# Altium schematic symbol library XG_DW_POCT_2K10LED_3.SCHLIB: 219 symbols (part 1 of 2)
Pins are listed as number, name and electrical type; pins without a type are passive.

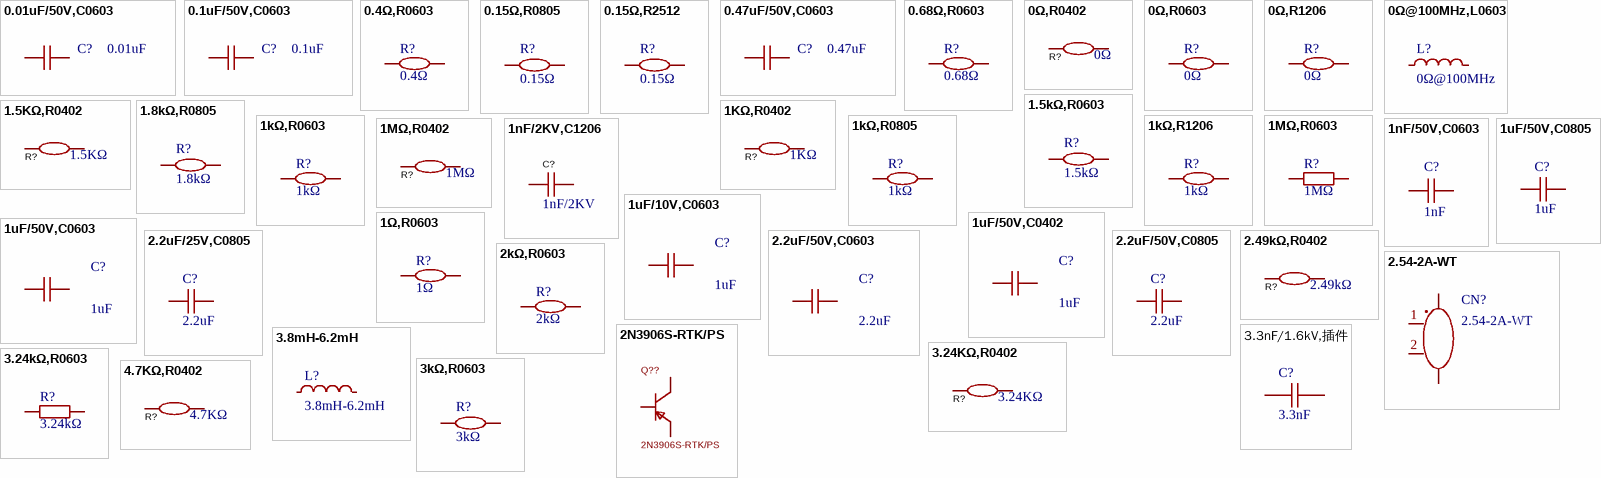
[diagram p0: symbols 0.01uF/50V,C0603 to 4.7KΩ,R0402]

## 0.01uF/50V,C0603
designator C?, comment 0.01uF
贴片电容,X7R; ComponentLink1Description: 供应商链接; ComponentLink1URL: http://www.szlcsc.com/product/details_16531.html
footprint C0603
pins: 1, 2

## 0.1uF/50V,C0603
designator C?, comment 0.1uF
贴片电容,X7R; ComponentLink1Description: 供应商链接; ComponentLink1URL: http://www.szlcsc.com/product/details_16531.html
footprint C0603
pins: 1, 2

## 0.4Ω,R0603
designator R?, comment 0.4Ω
贴片电阻
footprint R0603
3D model R0805_L2.0-W1.3-H0.6
pins: 1, 2

## 0.15Ω,R0805
designator R?, comment 0.15Ω
贴片电阻
footprint R0805
3D model R0805_L2.0-W1.3-H0.6
pins: 1, 2

## 0.15Ω,R2512
designator R?, comment 0.15Ω
贴片电阻
footprint R2512
3D model R0805_L2.0-W1.3-H0.6
pins: 1, 2

## 0.47uF/50V,C0603
designator C?, comment 0.47uF
贴片电容,X7R; ComponentLink1Description: 供应商链接; ComponentLink1URL: http://www.szlcsc.com/product/details_16531.html
footprint C0603
pins: 1, 2

## 0.68Ω,R0603
designator R?, comment 0.68Ω
贴片电阻
footprint R0603
3D model R0805_L2.0-W1.3-H0.6
pins: 1, 2

## 0Ω,R0402
designator R?, comment 0Ω
贴片电阻0Ω
3D model R0402_L1.0-W0.5-H0.5
footprint R0402
pins: 1, 2

## 0Ω,R0603
designator R?, comment 0Ω
贴片电阻
footprint R0603
3D model R0805_L2.0-W1.3-H0.6
pins: 1, 2

## 0Ω,R1206
designator R?, comment 0Ω
贴片电阻
footprint R1206
3D model R0603
pins: 1, 2

## 0Ω@100MHz,L0603
designator L?, comment 0Ω@100MHz
CBG160808U000T;磁珠;阻抗@频率 0Ω@100MHz;直流电阻(DCR) 100mΩ;额定电流 800mA
footprint L0603
3D model L1812_L4.5-W3.2-H3.2
pins: 1, 2

## 1.5KΩ,R0402
designator R?, comment 1.5KΩ
贴片电阻1.5KΩ;1%
3D model R0402_L1.0-W0.5-H0.5
footprint R0402
pins: 1, 2

## 1.5kΩ,R0603
designator R?, comment 1.5kΩ
电阻类型:厚膜电阻;阻值:1.5kΩ;精度:±1%;功率:100mW;最大工作电压:75V;温度系数:±100ppm/℃;
footprint R0603
3D model R0603
pins: 1, 2

## 1.8kΩ,R0805
designator R?, comment 1.8kΩ
电阻类型:厚膜电阻;阻值:1.8kΩ;精度:±1%;功率:125mW;最大工作电压:150V;温度系数:±100ppm/℃;
footprint R0805
3D model R0805_L2.0-W1.3-H0.6
pins: 1, 2

## 1KΩ,R0402
designator R?, comment 1KΩ
贴片电阻1KΩ;1%
3D model R0402_L1.0-W0.5-H0.5
footprint R0402
pins: 1, 2

## 1kΩ,R0603
designator R?, comment 1kΩ
电阻类型:厚膜电阻;阻值:1kΩ;精度:±1%;功率:125mW;最大工作电压:150V;温度系数:±100ppm/℃;
footprint R0603
3D model R0805_L2.0-W1.3-H0.6
pins: 1, 2

## 1kΩ,R0805
designator R?, comment 1kΩ
贴片电阻
footprint R0805
3D model R0805_L2.0-W1.3-H0.6
pins: 1, 2

## 1kΩ,R1206
designator R?, comment 1kΩ
贴片电阻
footprint R1206
3D model R0603
pins: 1, 2

## 1MΩ,R0402
designator R?, comment 1MΩ
电阻类型:厚膜电阻;阻值:1MΩ;精度:±1%;功率:100mW;最大工作电压:75V;温度系数:±100ppm/℃;
3D model R0402_L1.0-W0.5-H0.5
footprint R0402
pins: 1, 2

## 1MΩ,R0603
designator R?, comment 1MΩ
贴片电阻; ComponentLink1Description: 供应商链接; ComponentLink1URL: http://www.szlcsc.com/product/details_23662.html
footprint R0603
pins: 1, 2

## 1nF/2KV,C1206
designator C?, comment 1nF/2KV
贴片电容,X7R
footprint C1206
3D model C1206_L3.2-W1.6-H1.3
pins: 1, 2

## 1nF/50V,C0603
designator C?, comment 1nF
贴片电容,X7R
footprint C0603
3D model C0603_L1.6-W0.8-H0.8
pins: 1, 2

## 1uF/10V,C0603
designator C?, comment 1uF
贴片电容,X7R; ComponentLink1Description: 供应商链接; ComponentLink1URL: http://www.szlcsc.com/product/details_16531.html
footprint C0603
pins: 1, 2

## 1uF/50V,C0402
designator C?, comment 1uF
贴片电容,X7R; ComponentLink1Description: 供应商链接; ComponentLink1URL: http://www.szlcsc.com/product/details_16531.html
footprint C0402
pins: 1, 2

## 1uF/50V,C0603
designator C?, comment 1uF
贴片电容,X7R; ComponentLink1Description: 供应商链接; ComponentLink1URL: http://www.szlcsc.com/product/details_16531.html
footprint C0603
pins: 1, 2

## 1uF/50V,C0805
designator C?, comment 1uF
贴片电容,X7R
footprint C0805
3D model C0805_L2.0-W1.3-H1.3
pins: 1, 2

## 1Ω,R0603
designator R?, comment 1Ω
贴片电阻
footprint R0603
3D model R0805_L2.0-W1.3-H0.6
pins: 1, 2

## 2.2uF/25V,C0805
designator C?, comment 2.2uF
贴片电容,X7R
footprint C0805
3D model C0805_L2.0-W1.3-H1.3
pins: 1, 2

## 2.2uF/50V,C0603
designator C?, comment 2.2uF
贴片电容,X7R; ComponentLink1Description: 供应商链接; ComponentLink1URL: http://www.szlcsc.com/product/details_16531.html
footprint C0603
pins: 1, 2

## 2.2uF/50V,C0805
designator C?, comment 2.2uF
贴片电容,X7R
footprint C0805
3D model C0805_L2.0-W1.3-H1.3
pins: 1, 2

## 2.49kΩ,R0402
designator R?, comment 2.49kΩ
电阻类型:厚膜电阻;阻值:2.49kΩ
3D model R0402_L1.0-W0.5-H0.5
footprint R0402
pins: 1, 2

## 2.54-2A-WT
designator CN?
线对板针座;SMD,P=2.54mm,卧贴;XH2.44 1x2Pin; Manufacturer: CAX(创都); Add into BOM: yes; Pins Structure: 1x2P; Pitch: 2.54mm; Reference Series: XH; Number of PINs Per Row: 2; Current Rating (Max): 500mA; Symbol: 2.54-2A-WT; Device: 2.54-2A-WT; LCSC Part Name: 1x2P 间距:2.54mm 卧贴 系列:XH; Supplier Part: C722696; Manufacturer Part: 2.54-2A-WT; Supplier Footprint: SMD,P=2.54mm,卧贴; JLCPCB Part Class: 扩展库; Datasheet: https://atta.szlcsc.com/upload/public/pdf/source/20200831/C722696_77A3476FAF7CFEE79ECA533977340414.pdf; Supplier: LCSC; Convert to PCB: yes; Mounting Style: 卧贴; Number of Pins: 2P; Number of Rows: 1; Row Spacing: -; Operating Temperature Range: -25℃~+85℃
footprint CONN-SMD_2.54-2A-WT
3D model CONN-SMD_2.54-2A-WT
pins: 1, 2, 3, 4

## 2kΩ,R0603
designator R?, comment 2kΩ
贴片电阻
footprint R0603
3D model R0805_L2.0-W1.3-H0.6
pins: 1, 2

## 2N3906S-RTK/PS
designator Q??
Manufacturer: KEC; Symbol: 2N3906S-RTK/PS_C5300004; Add into BOM: yes; Current - Collector(Ic): 200mA; Collector - Emitter Voltage VCEO: 40V; Pd - Power Dissipation: 350mW; DC Current Gain: 300@10mA,1V; Transition frequency(fT): 250MHz; Current - Collector Cutoff: 50nA; Vce Saturation(VCE(sat)): 400mV@50mA,5mA; Emitter-Base Voltage(Vebo): 5V; Device: 2N3906S-RTK/PS; LCSC Part Name: 2N3906S-RTK/PS; Supplier Part: C5300004; Manufacturer Part: 2N3906S-RTK/PS; Supplier Footprint: SOT-23; JLCPCB Part Class: Extended Part; Datasheet: https://item.szlcsc.com/datasheet/2N3906S-RTK%252FPS/6051230.html; Supplier: LCSC; Convert to PCB: yes
footprint SOT-23-3_L2.9-W1.3-P1.90-LS2.4-TR
3D model SOT-23-3P_L2.9-W1.3-H1.0-LS2.4-P0.95
pins: 1 E, 2 B, 3 C

## 3.3nF/1.6kV,插件
designator C?, comment 3.3nF
PS332J3C1001; 聚丙烯膜电容(CBB);容值 3.3nF;精度 ±5%;额定电压 1.6kV
footprint CAP-TH_L11.5-W6.0-P10.00-D0.6
3D model CAP-TH-2P-L11.5-W6.0-H12.0-P10.0
pins: 1, 2

## 3.8mH-6.2mH
designator L?
工字电感
footprint 插件,D12xL20mm
pins: 1, 2

## 3.24KΩ,R0402
designator R?, comment 3.24KΩ
贴片电阻3.24KΩ;1%
3D model R0402_L1.0-W0.5-H0.5
footprint R0402
pins: 1, 2

## 3.24kΩ,R0603
designator R?, comment 3.24kΩ
贴片电阻3.24KΩ;1%; ComponentLink1Description: 供应商链接; ComponentLink1URL: http://www.szlcsc.com/product/details_21904.html
footprint R0603
pins: 1, 2

## 3kΩ,R0603
designator R?, comment 3kΩ
电阻类型:厚膜电阻;阻值:3kΩ;精度:±1%;功率:100mW;最大工作电压:75V;温度系数:±100ppm/℃;
footprint R0603
3D model R0603
pins: 1, 2

## 4.7KΩ,R0402
designator R?, comment 4.7KΩ
贴片电阻4.7KΩ;1%
3D model R0402_L1.0-W0.5-H0.5
footprint R0402
pins: 1, 2

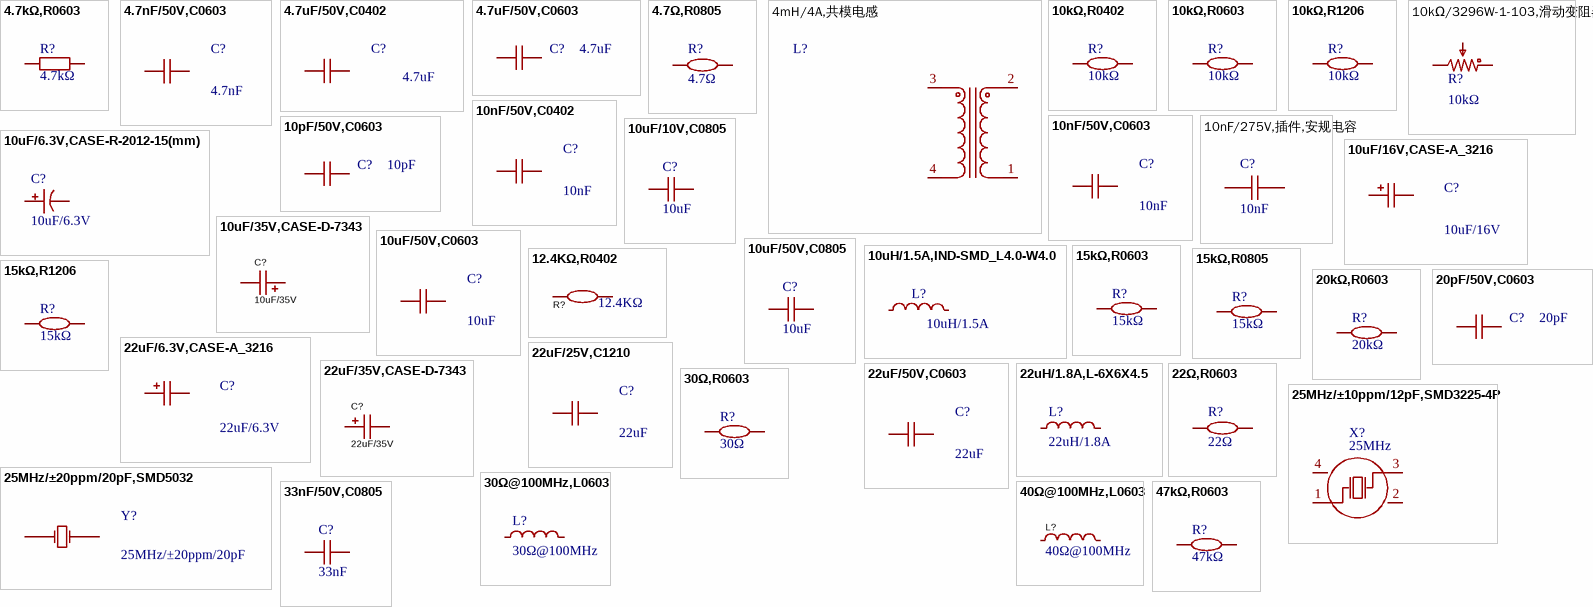
[diagram p1: symbols 4.7kΩ,R0603 to 47kΩ,R0603]

## 4.7kΩ,R0603
designator R?, comment 4.7kΩ
贴片电阻; ComponentLink1Description: 供应商链接; ComponentLink1URL: http://www.szlcsc.com/product/details_21904.html
footprint R0603
pins: 1, 2

## 4.7nF/50V,C0603
designator C?, comment 4.7nF
贴片电容,X7R; ComponentLink1Description: 供应商链接; ComponentLink1URL: http://www.szlcsc.com/product/details_16531.html
footprint C0603
pins: 1, 2

## 4.7uF/50V,C0402
designator C?, comment 4.7uF
贴片电容,X7R; ComponentLink1Description: 供应商链接; ComponentLink1URL: http://www.szlcsc.com/product/details_16531.html
footprint C0402
pins: 1, 2

## 4.7uF/50V,C0603
designator C?, comment 4.7uF
贴片电容,X7R; ComponentLink1Description: 供应商链接; ComponentLink1URL: http://www.szlcsc.com/product/details_16531.html
footprint C0603
pins: 1, 2

## 4.7Ω,R0805
designator R?, comment 4.7Ω
贴片电阻
footprint R0805
3D model R0805_L2.0-W1.3-H0.6
pins: 1, 2

## 4mH/4A,共模电感
designator L?, comment 4mH/4A  (value not drawn)
XRT16128B-402VFRL8；共模滤波器
footprint L21x12.5mm-4P
pins: 1, 2, 3, 4

## 10kΩ,R0402
designator R?, comment 10kΩ
电阻类型:厚膜电阻;阻值:10kΩ;精度:±1%;功率:100mW;最大工作电压:75V;温度系数:±100ppm/℃;
footprint R0402
3D model R0603
pins: 1, 2

## 10kΩ,R0603
designator R?, comment 10kΩ
电阻类型:厚膜电阻;阻值:10kΩ;精度:±1%;功率:100mW;最大工作电压:75V;温度系数:±100ppm/℃;
footprint R0603
3D model R0603
pins: 1, 2

## 10kΩ,R1206
designator R?, comment 10kΩ
贴片电阻
footprint R1206
3D model R0603
pins: 1, 2

## 10kΩ/3296W-1-103,滑动变阻器
designator R?, comment 10kΩ
滑动变阻器
footprint RES-ADJ-TH_3P-L10.0-W10.0-P2.50-L
3D model 3296W
pins: 1, 2, 3

## 10nF/50V,C0402
designator C?, comment 10nF
贴片电容,X7R; ComponentLink1Description: 供应商链接; ComponentLink1URL: http://www.szlcsc.com/product/details_16531.html
footprint C0402
pins: 1, 2

## 10nF/50V,C0603
designator C?, comment 10nF
贴片电容,X7R; ComponentLink1Description: 供应商链接; ComponentLink1URL: http://www.szlcsc.com/product/details_16531.html
footprint C0603
pins: 1, 2

## 10nF/275V,插件,安规电容
designator C?, comment 10nF
MPX103K31C2KN15600;安规电容;容值 10nF;精度 ±10%;工作电压(AC) 275V；310V；305V;防护等级 X2;安规认证 UL；CUL；KC；ENEC；VDE；CQC
footprint CAP-TH_L12.0-W5.0-P10.00-D0.6-1
3D model CAP-TH_L12.0-W5.0-P10.00-D0.6-1
pins: 1, 2

## 10pF/50V,C0603
designator C?, comment 10pF
贴片电容,X7R; ComponentLink1Description: 供应商链接; ComponentLink1URL: http://www.szlcsc.com/product/details_16531.html
footprint C0603
pins: 1, 2

## 10uF/6.3V,CASE-R-2012-15(mm)
designator C?, comment 10uF/6.3V
TAJR106K006RNJ; 钽电容;容值:10uF;精度:±10%;额定电压:6.3V;等效串联电阻:6Ω@100kHz;
footprint CAP-SMD_L2.0-W1.2
3D model CAP-SMD_L2.0-W1.2
pins: 1, 2

## 10uF/10V,C0805
designator C?, comment 10uF
容值:10uF;X7R
footprint C0805
3D model C0805_L2.0-W1.3-H1.3
pins: 1, 2

## 10uF/16V,CASE-A_3216 
designator C?, comment 10uF/16V
钽电容;±10%;16V; ComponentLink1Description: 供应商链接; ComponentLink1URL: http://www.szlcsc.com/product/details_7643.html
footprint CASE-A_3216
pins: 1, 2

## 10uF/35V,CASE-D-7343
designator C?, comment 10uF/35V
TAJD106K035RNJ;钽电容;容值 10uF;精度 ±10%; 额定电压 35V;等效串联电阻(ESR) 1Ω@100kHz
footprint CASE-D_7343
3D model CASE-D_L7.3-W4.3-H2.9
pins: 1, 2

## 10uF/50V,C0603
designator C?, comment 10uF
贴片电容,X7R; ComponentLink1Description: 供应商链接; ComponentLink1URL: http://www.szlcsc.com/product/details_16531.html
footprint C0603
pins: 1, 2

## 10uF/50V,C0805
designator C?, comment 10uF
容值:10uF;精度:±10%;额定电压:50V;材质(温度系数):X5R;
footprint C0805
3D model C0805_L2.0-W1.3-H1.3
pins: 1, 2

## 10uH/1.5A,IND-SMD_L4.0-W4.0
designator L?, comment 10uH/1.5A
SWPA4030S100MT;功率电感;电感值:10uH;精度:±20%;额定电流:1.5A;饱和电流(Isat):2.4A;类型:-;
footprint IND-SMD_L4.0-W4.0
3D model IND-SMD_L4.0-W4.0-H1.9
pins: 1, 2

## 12.4KΩ,R0402
designator R?, comment 12.4KΩ
贴片电阻12.4KΩ;1%
3D model R0402_L1.0-W0.5-H0.5
footprint R0402
pins: 1, 2

## 15kΩ,R0603
designator R?, comment 15kΩ
贴片电阻
footprint R0603
3D model R0805_L2.0-W1.3-H0.6
pins: 1, 2

## 15kΩ,R0805
designator R?, comment 15kΩ
贴片电阻
footprint R0805
3D model R0805_L2.0-W1.3-H0.6
pins: 1, 2

## 15kΩ,R1206
designator R?, comment 15kΩ
贴片电阻
footprint R1206
3D model R0603
pins: 1, 2

## 20kΩ,R0603
designator R?, comment 20kΩ
厚膜电阻;阻值:20kΩ;精度:±1%
footprint R0603
3D model R0603
pins: 1, 2

## 20pF/50V,C0603
designator C?, comment 20pF
贴片电容,X7R; ComponentLink1Description: 供应商链接; ComponentLink1URL: http://www.szlcsc.com/product/details_16531.html
footprint C0603
pins: 1, 2

## 22uF/6.3V,CASE-A_3216
designator C?, comment 22uF/6.3V
钽电容;±10%;6.3V; ComponentLink1Description: 供应商链接; ComponentLink1URL: http://www.szlcsc.com/product/details_7643.html
footprint CASE-A_3216
pins: 1, 2

## 22uF/25V,C1210
designator C?, comment 22uF
贴片电容,X7R; ComponentLink1Description: 供应商链接; ComponentLink1URL: http://www.szlcsc.com/product/details_2206.html
footprint C1210
pins: 1, 2

## 22uF/35V,CASE-D-7343
designator C?, comment 22uF/35V
TAJD226K035RNJ;钽电容;容值 22uF; 精度 ±10%额定电压 35V;等效串联电阻(ESR) 900mΩ@100kHz
footprint CAP-SMD_L7.3-W4.3-RD
3D model CAP-SMD_L7.3-W4.3-RD
pins: 1, 2

## 22uF/50V,C0603
designator C?, comment 22uF
贴片电容,X7R; ComponentLink1Description: 供应商链接; ComponentLink1URL: http://www.szlcsc.com/product/details_16531.html
footprint C0603
pins: 1, 2

## 22uH/1.8A,L-6X6X4.5
designator L?, comment 22uH/1.8A
SWPA6045S220MT;功率电感;SMD,6x6mm;电感值 22uH;精度 ±20%;额定电流 1.8A;饱和电流(Isat) 2.2A;直流电阻(DCR) 89mΩ
footprint L-6X6X4.5
3D model L1812_L4.5-W3.2-H3.2
pins: 1, 2

## 22Ω,R0603
designator R?, comment 22Ω
电阻类型:厚膜电阻;阻值:22Ω;精度:±1%;功率:100mW;最大工作电压:75V;温度系数:±100ppm/℃;
footprint R0603
3D model R0603
pins: 1, 2

## 25MHz/±10ppm/12pF,SMD3225-4P
designator X?, comment 25MHz
TAXM25M4RFBCCT2T;无源晶振;贴片晶振;频率 25MHz;常温频差 ±10ppm;负载电容 12pF;频率稳定度 ±50ppm;等效串联电阻(ESR) 80Ω;工作温度 -40℃~+85℃
footprint OSC-SMD_4P-L3.2-W2.5-BL
pins: 1 OSC1, 2 GND, 3 OSC2, 4 GND

## 25MHz/±20ppm/20pF,SMD5032
designator Y?, comment 25MHz/±20ppm/20pF
X503225MSB2GI;无源晶振; ComponentLink1Description: 供应商链接; ComponentLink1URL: http://www.szlcsc.com/product/details_117214.html
footprint SMD-5032_2P
pins: 1 OSC1, 2 OSC2

## 30Ω,R0603
designator R?, comment 30Ω
贴片电阻
footprint R0603
3D model R0805_L2.0-W1.3-H0.6
pins: 1, 2

## 30Ω@100MHz,L0603
designator L?, comment 30Ω@100MHz
SBK160808T-300Y-N;磁珠; 阻抗@频率  30Ω@100MHz;误差 ±25%;直流电阻(DCR) 100mΩ;额定电流 400mA
footprint L0603
3D model L1812_L4.5-W3.2-H3.2
pins: 1, 2

## 33nF/50V,C0805
designator C?, comment 33nF
贴片电容，X7R
footprint C0805
3D model C0805_L2.0-W1.3-H1.3
pins: 1, 2

## 40Ω@100MHz,L0603
designator L?, comment 40Ω@100MHz
ILBB0603ER400V;磁珠;阻抗@频率 40Ω@100MHz;误差 ±25%;直流电阻(DCR) 800mΩ; 额定电流 150mA
footprint L0603
3D model L0603_L1.6-W0.8-H0.5_BEAD
pins: 1, 2

## 47kΩ,R0603
designator R?, comment 47kΩ
贴片电阻
footprint R0603
3D model R0603
pins: 1, 2

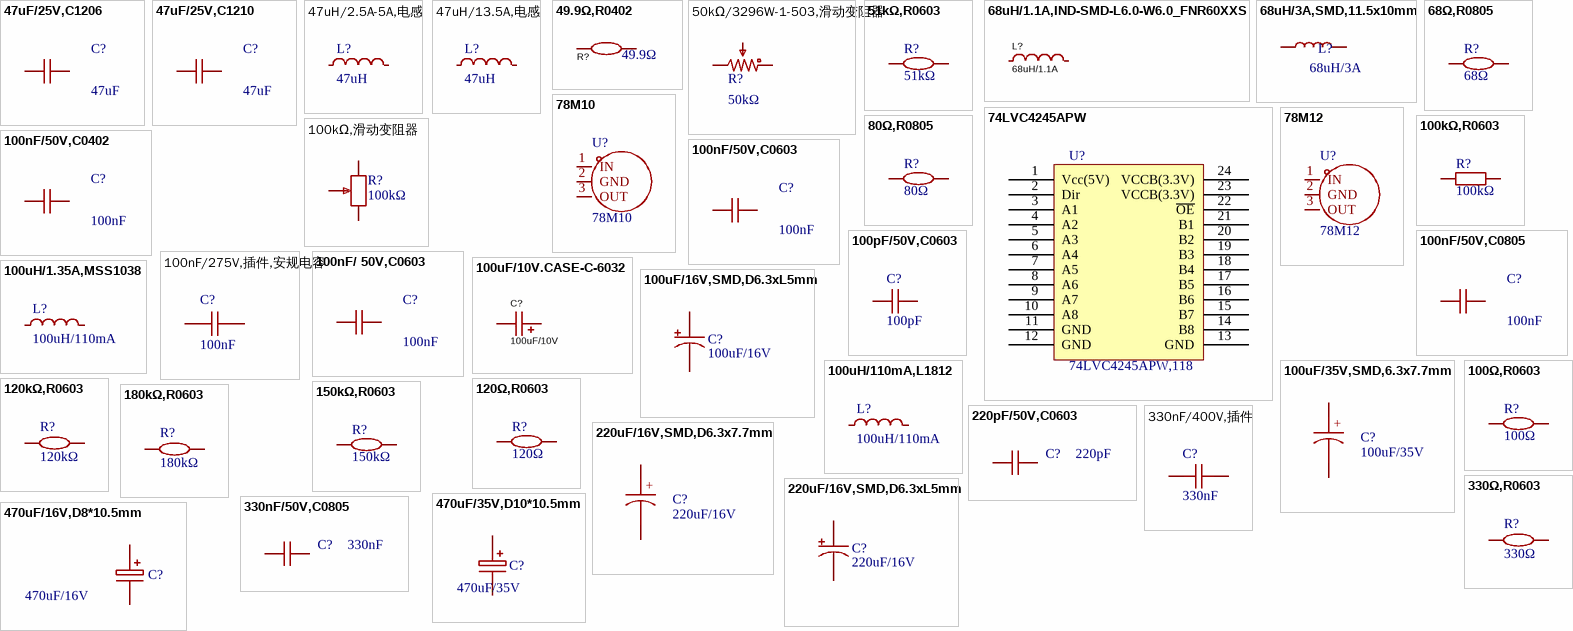
[diagram p2: symbols 47uF/25V,C1206 to 470uF/35V,D10*10.5mm]

## 47uF/25V,C1206
designator C?, comment 47uF
贴片电容,X7R; ComponentLink1Description: 供应商链接; ComponentLink1URL: http://www.szlcsc.com/product/details_30577.html
footprint C1206
pins: 1, 2

## 47uF/25V,C1210
designator C?, comment 47uF
贴片电容,X7R; ComponentLink1Description: 供应商链接; ComponentLink1URL: http://www.szlcsc.com/product/details_2206.html
footprint C1210
pins: 1, 2

## 47uH/2.5A-5A,电感
designator L?, comment 47uH
XR3726T470MVL5;色环/插件电感;电感值 47uH；精度 ±10%；额定电流 2.5A；饱和电流(Isat) 5A;线径 0.5mm
footprint L11.5x7x5.0mm-2P
3D model IND-TH_L23.0-W12.0-P9.00-D1.4
pins: 1, 2

## 47uH/13.5A,电感
designator L?, comment 47uH
PDMTAT068125-470MLU;色环/插件电感;电感值 47uH;精度 ±20%;额定电流 13.5A;直流电阻(DCR) 12mΩ;环形电感
footprint IND-TH_L23.0-W12.0-P9.00-D1.4
3D model IND-TH_L23.0-W12.0-P9.00-D1.4
pins: 1, 2

## 49.9Ω,R0402
designator R?, comment 49.9Ω
贴片电阻49.9R;1%
3D model R0402_L1.0-W0.5-H0.5
footprint R0402
pins: 1, 2

## 50kΩ/3296W-1-503,滑动变阻器
designator R?, comment 50kΩ
滑动变阻器
footprint RES-ADJ-TH_3P-L9.5-W4.85-P2.50-BL-BS
3D model 3296W
pins: 1, 2, 3

## 51kΩ,R0603
designator R?, comment 51kΩ
电阻类型:厚膜电阻;阻值:51kΩ;精度:±1%;功率:100mW;最大工作电压:75V;温度系数:±100ppm/℃;
footprint R0603
3D model R0603
pins: 1, 2

## 68uH/1.1A,IND-SMD-L6.0-W6.0_FNR60XXS
designator L?, comment 68uH/1.1A
FNR6045S680MT;功率电感;电感值 68uH;精度 ±20%;额定电流 1.1A;饱和电流(Isat) 1.3A;直流电阻(DCR) 376mΩ
footprint IND-SMD_L6.0-W6.0_FNR60XXS
3D model IND-SMD_L6.0-W6.0-H2.8
pins: 1, 2

## 68uH/3A,SMD,11.5x10mm
designator L?, comment 68uH/3A
YSPI1050-680M;功率电感;电感值 68uH;精度 ±20%;额定电流 3A;直流电阻(DCR) 240mΩ
footprint SMD INDUCTOR 68uH 3A (SMD 68uH 3A功率电感)
pins: 1, 2

## 68Ω,R0805
designator R?, comment 68Ω
贴片电阻
footprint R0805
3D model R0805_L2.0-W1.3-H0.6
pins: 1, 2

## 74LVC4245APW
designator U?, comment 74LVC4245APW,118
转换器/电平移位器；通道类型 双向；工作电压(VCCA) 1.5V~5.5V；工作电压(VCCB)1.5V~3.6V； 通道数 1；每个电路通道数 8；输出类型 三态
footprint TSSOP-24
pins: 1 Vcc(5V), 2 Dir, 3 A1, 4 A2, 5 A3, 6 A4, 7 A5, 8 A6, 9 A7, 10 A8, 11 GND, 12 GND, 13 GND, 14 B8, 15 B7, 16 B6, 17 B5, 18 B4, 19 B3, 20 B2, 21 B1, 22 ~{OE}, 23 VCCB(3.3V), 24 VCCB(3.3V)

## 78M10
designator U?
线性稳压器(LDO)；输出类型 固定；工作电压 35V；输出电压 10V；输出电流 500mA； 静态电流(Iq) 6mA；特性 短路保护；过热保护
footprint TO-252-3_L6.5-W5.9-P4.60-LS10.0-BL
3D model TO-252-3_L6.5-W5.9-P4.60-LS10.0-BL
pins: 1 IN, 2 GND, 3 OUT

## 78M12
designator U?
线性稳压器(LDO)；输出类型 固定；工作电压 35V；输出电压 12V；输出电流 500mA； 静态电流(Iq) 6mA；特性 短路保护；过热保护
footprint TO-252-3_L6.5-W5.9-P4.60-LS10.0-BL
3D model TO-252-3_L6.5-W5.9-P4.60-LS10.0-BL
pins: 1 IN, 2 GND, 3 OUT

## 80Ω,R0805
designator R?, comment 80Ω
贴片电阻
footprint R0805
3D model R0805_L2.0-W1.3-H0.6
pins: 1, 2

## 100kΩ,R0603
designator R?, comment 100kΩ
贴片电阻; ComponentLink1Description: 供应商链接; ComponentLink1URL: http://www.szlcsc.com/product/details_21903.html
footprint R0603
pins: 1, 2

## 100kΩ,滑动变阻器
designator R?, comment 100kΩ
滑动变阻器;阻值:100kΩ;精度:±10%;功率:250mW;温度系数:±100ppm/℃;
footprint RES-ADJ-SMD_3224W
3D model RES-ADJ-SMD_3224W
pins: 1, 2, 3

## 100nF/50V,C0402
designator C?, comment 100nF
贴片电容,X7R; ComponentLink1Description: 供应商链接; ComponentLink1URL: http://www.szlcsc.com/product/details_16531.html
footprint C0402
pins: 1, 2

## 100nF/50V,C0603
designator C?, comment 100nF
贴片电容,X7R; ComponentLink1Description: 供应商链接; ComponentLink1URL: http://www.szlcsc.com/product/details_16531.html
footprint C0603
pins: 1, 2

## 100nF/50V,C0805
designator C?, comment 100nF
贴片电容,X7R; ComponentLink1Description: 供应商链接; ComponentLink1URL: http://www.szlcsc.com/product/details_16531.html
footprint C0805
pins: 1, 2

## 100nF/275V,插件,安规电容
designator C?, comment 100nF
MPX104K31C3KN15600；安规电容；容值 100nF；精度 ±10%；工作电压(AC) 275V；310V；305V；防护等级 X2；安规认证 UL；CUL；KC；ENEC；VDE；CQC
footprint CAP-TH_L13.0-W6.0-P10.00-D0.6
3D model CAP-TH_L13.0-W6.0-H12.0-P10.0
pins: 1, 2

## 100nF/ 50V,C0603
designator C?, comment 100nF
贴片电容,COG; ComponentLink1Description: 供应商链接; ComponentLink1URL: http://www.szlcsc.com/product/details_16531.html
footprint C0603
pins: 1, 2

## 100pF/50V,C0603
designator C?, comment 100pF
容值:100pF;精度:±5%;额定电压:50V;材质(温度系数):C0G;
footprint C0603
3D model C0603_L1.6-W0.8-H0.8
pins: 1, 2

## 100uF/10V.CASE-C-6032
designator C?, comment 100uF/10V
TAJC107K010RNJ; 钽电容;容值 100uF;精度 ±10%;额定电压 10V;等效串联电阻(ESR) 1.2Ω@100kHz
footprint CAP-SMD_L6.0-W3.2-R-RD
pins: 1, 2

## 100uF/16V,SMD,D6.3xL5mm
designator C?, comment 100uF/16V
贴片型铝电解电容;容值 100uF;精度 ±20%;额定电压 16V;纹波电流 48mA@120Hz;电容体直径 6.3mm;电容体长度 5mm;工作寿命 2000hrs@105℃;工作温度 -40℃~+105℃
footprint CAP-SMD_BD6.3-L6.6-W6.6-FD
3D model CAP-SMD_BD6.3-L6.6-W6.6-FD
pins: 1, 2

## 100uF/35V,SMD,6.3x7.7mm
designator C?, comment 100uF/35V
贴片型铝电解电容
footprint SMD-ECAP-6.3×7.7
pins: 1, 2
text: +

## 100uH/1.35A,MSS1038
designator L?, comment 100uH/110mA
SLD10D40S-101MTT;功率电感;电感值 100uH;精度 ±20%;额定电流 1.35A;直流电阻(DCR) 304mΩ
footprint MSS1038
3D model L1812_L4.5-W3.2-H3.2
pins: 1, 2

## 100uH/110mA,L1812
designator L?, comment 100uH/110mA
CM4532101KSB;电感值:100uH;精度:±10%;额定电流:110mA;
footprint L1812
3D model L1812_L4.5-W3.2-H3.2
pins: 1, 2

## 100Ω,R0603
designator R?, comment 100Ω
贴片电阻
footprint R0603
3D model R0805_L2.0-W1.3-H0.6
pins: 1, 2

## 120kΩ,R0603
designator R?, comment 120kΩ
电阻类型:厚膜电阻;阻值:120kΩ;精度:±1%;功率:100mW;最大工作电压:75V;温度系数:±100ppm/℃;
footprint R0603
3D model R0603
pins: 1, 2

## 120Ω,R0603
designator R?, comment 120Ω
贴片电阻
footprint R0603
3D model R0603
pins: 1, 2

## 150kΩ,R0603
designator R?, comment 150kΩ
电阻类型:厚膜电阻;阻值:150kΩ;精度:±1%;功率:100mW;最大工作电压:75V;温度系数:±100ppm/℃;
footprint R0603
3D model R0603
pins: 1, 2

## 180kΩ,R0603
designator R?, comment 180kΩ
电阻类型:厚膜电阻;阻值:180kΩ;精度:±1%;功率:100mW;最大工作电压:75V;温度系数:±100ppm/℃;
footprint R0603
3D model R0603
pins: 1, 2

## 220pF/50V,C0603
designator C?, comment 220pF
容值:220pF;精度:±5%;额定电压:50V;材质(温度系数):C0G;; ComponentLink1Description: 供应商链接; ComponentLink1URL: http://www.szlcsc.com/product/details_16531.html
footprint C0603
pins: 1, 2

## 220uF/16V,SMD,D6.3x7.7mm
designator C?, comment 220uF/16V
贴片型铝电解电容
footprint SMD-ECAP-6.3×7.7
pins: 1, 2
text: +

## 220uF/16V,SMD,D6.3xL5mm
designator C?, comment 220uF/16V
贴片型铝电解电容;容值 220uF;精度 ±20%;额定电压 16V
footprint CAP-SMD_BD6.3-L6.6-W6.6-FD
3D model CAP-SMD_BD6.3-L6.6-W6.6-FD
pins: 1, 2

## 330nF/50V,C0805
designator C?, comment 330nF
贴片电容,X7R; ComponentLink1Description: 供应商链接; ComponentLink1URL: http://www.szlcsc.com/product/details_16531.html
footprint C0805
pins: 1, 2

## 330nF/400V,插件
designator C?, comment 330nF
KP334J2G1002T; 聚丙烯膜电容(CBB);容值 330nF;精度 ±5%;额定电压 400V
footprint CAP-TH_L11.5-W6.0-P10.00-D0.6
3D model CAP-TH-2P-L11.5-W6.0-H12.0-P10.0
pins: 1, 2

## 330Ω,R0603
designator R?, comment 330Ω
贴片电阻
footprint R0603
3D model R0603
pins: 1, 2

## 470uF/16V,D8*10.5mm
designator C?, comment 470uF/16V
贴片型铝电解电容
footprint ELE-S-10.5/D8.0
pins: 1, 2
2 alternate drawings of the same symbol

## 470uF/35V,D10*10.5mm
designator C?, comment 470uF/35V
贴片型铝电解电容
footprint ELE-S-10.5/D10
pins: 1, 2
2 alternate drawings of the same symbol

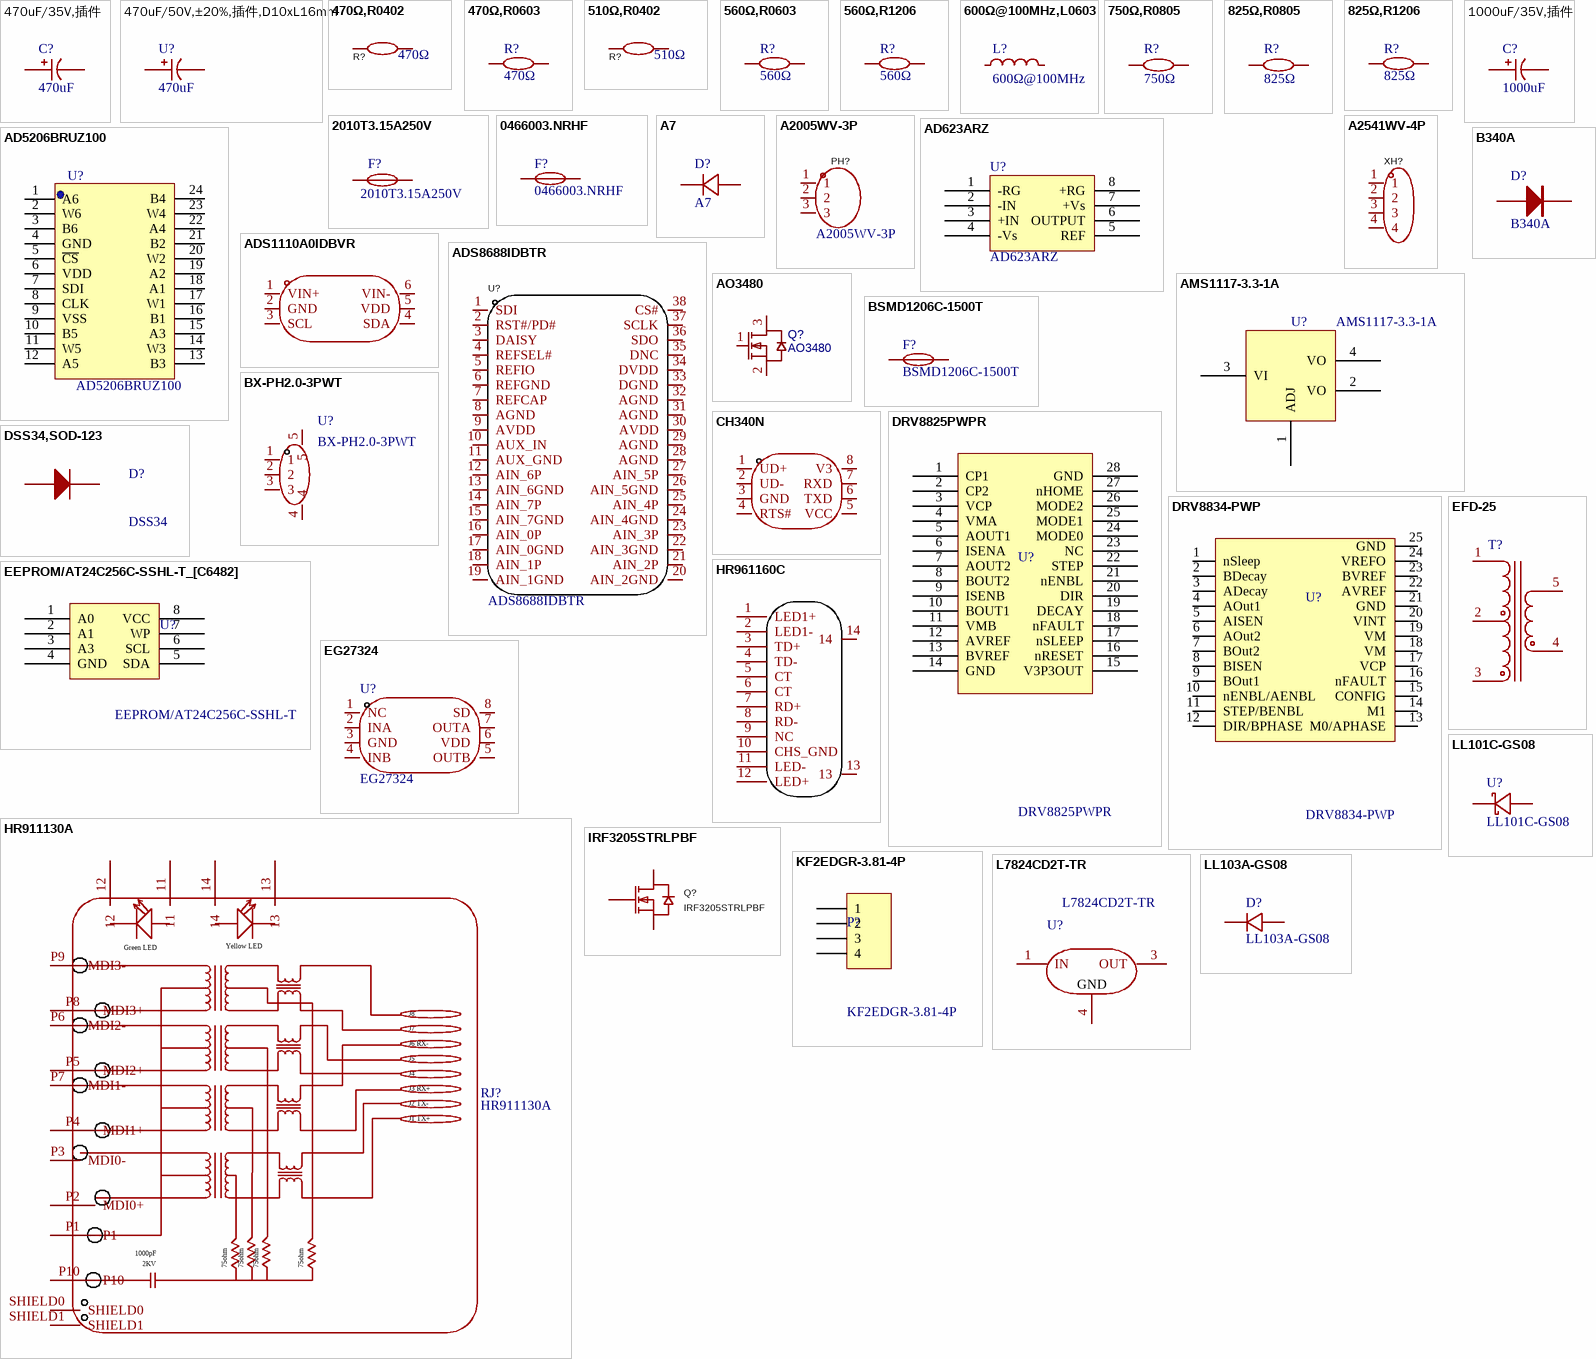
[diagram p3: symbols 470uF/35V,插件 to LL103A-GS08]

## 470uF/35V,插件
designator C?, comment 470uF
footprint CAP-TH_BD10.0-P5.00-D0.6-FD
3D model CAP-SMD_BD10.0-L10.3-W10.3-H10.2
pins: 1, 2

## 470uF/50V,±20%,插件,D10xL16mm
designator U?, comment 470uF
直插铝电解电容
footprint CAP-TH_BD10.0-P5.00-D0.6-FD
3D model CAP-TH_BD10.0-P5.00-D0.6-FD
pins: 1, 2

## 470Ω,R0402
designator R?, comment 470Ω
贴片电阻470Ω;1%
3D model R0402_L1.0-W0.5-H0.5
footprint R0402
pins: 1, 2

## 470Ω,R0603
designator R?, comment 470Ω
贴片电阻
footprint R0603
3D model R0805_L2.0-W1.3-H0.6
pins: 1, 2

## 510Ω,R0402
designator R?, comment 510Ω
贴片电阻
3D model R0402_L1.0-W0.5-H0.5
footprint R0402
pins: 1, 2

## 560Ω,R0603
designator R?, comment 560Ω
贴片电阻
footprint R0603
3D model R0805_L2.0-W1.3-H0.6
pins: 1, 2

## 560Ω,R1206
designator R?, comment 560Ω
贴片电阻
footprint R1206
3D model R0805_L2.0-W1.3-H0.6
pins: 1, 2

## 600Ω@100MHz,L0603
designator L?, comment 600Ω@100MHz
BLM18AG601SN1D;磁珠;阻抗@频率 600Ω@100MHz;误差 ±25%;直流电阻(DCR) 380mΩ;额定电流 500mA
footprint L0603
3D model L1812_L4.5-W3.2-H3.2
pins: 1, 2

## 750Ω,R0805
designator R?, comment 750Ω
电阻类型:厚膜电阻;阻值:750Ω;精度:±1%;功率:125mW;最大工作电压:150V;温度系数:±100ppm/℃;
footprint R0805
3D model R0805_L2.0-W1.3-H0.6
pins: 1, 2

## 825Ω,R0805
designator R?, comment 825Ω
贴片电阻
footprint R0805
3D model R0805_L2.0-W1.3-H0.6
pins: 1, 2

## 825Ω,R1206
designator R?, comment 825Ω
贴片电阻
footprint R1206
3D model R0603
pins: 1, 2

## 1000uF/35V,插件
designator C?, comment 1000uF
ERR1VM102G20OT；容值: 1000uF；精度: ±20%；额定电压: 35V；脚间距: 5mm
footprint CAP-TH_BD10.0-P5.00-D0.6-FD
3D model CAP-SMD_BD10.0-L10.3-W10.3-H10.2
pins: 1, 2

## 2010T3.15A250V
designator F?
一次性方形保险丝； 额定电流 3.15A
footprint FUSE-TH_L8.5-W4.0-P5.08-D0.6
3D model FUSE-TH_L8.5-W4.0-H8.5-P5.08
pins: 1, 2

## 0466003.NRHF
designator F?
一次性贴片式保险丝；额定电流 3A；额定电压 (AC) 32V
footprint F1206
3D model F1206_L3.2-W1.7-H0.6
pins: 1, 2

## A7
designator D?
C3035834；通用二极管；正向压降(Vf) 1.1V@1A；直流反向耐压(Vr) 1kV；整流电流 1A；反向电流(Ir) 5uA
footprint SOD-123FL_L2.7-W1.8-LS3.7-RD
3D model SOD-123FL_L2.8-W1.8-H1.1-LS3.6
pins: 1 K, 2 A

## A2005WV-3P
designator PH?
footprint HDR-TH_3P-P2.00-V-M
3D model HDR-TH_3P-P2.00-M-LI-1X3P
pins: 1, 2, 3

## A2541WV-4P
designator XH?  (value not drawn)
C5346656
footprint HDR-TH_4P-P2.54-V-M
3D model HDR-TH_4P-P2.54-M-LI-1X4P
pins: 1, 2, 3, 4

## AD623ARZ
designator U?
仪表放大器；（可替代芯片AD623ARZ-R7）单路；共模抑制比(CMRR) 80dB；输入偏置电流(Ib) 25nA；输入失调电压(Vos) 25uV；压摆率(SR) 0.3V/us；带宽(-3db) 800kHz；轨到轨 轨到轨输出；每个通道工作电流 305uA、375uA；输入失调电压温漂(Vos TC) 0.1uV/℃；工作电压 2.5V~6V；2.7V~12V
footprint SOP-8_150mil
pins: 1 -RG, 2 -IN, 3 +IN, 4 -Vs, 5 REF, 6 OUTPUT, 7 +Vs, 8 +RG

## AD5206BRUZ100
designator U?
footprint TSSOP-24
pins: 1 A6, 2 W6, 3 B6, 4 GND, 5 ~{CS} (power), 6 VDD, 7 SDI, 8 CLK, 9 VSS, 10 B5, 11 W5 (power), 12 A5, 13 B3, 14 W3, 15 A3, 16 B1, 17 W1, 18 A1, 19 A2, 20 W2, 21 B2, 22 A4, 23 W4, 24 B4

## ADS1110A0IDBVR
designator U?  (value not drawn)
Manufacturer: TI(德州仪器); Add into BOM: yes; Resolution(Bits): 16位; Sampling Rate: 15Hz; number of channels: 1; Voltage - Supply: 2.7V~5.5V; Interface: I2C; Symbol: ADS1110A0IDBVR; Device: ADS1110A0IDBVR; LCSC Part Name: 16位模拟到数字转换器 带板载参考源; Supplier Part: C16598; Manufacturer Part: ADS1110A0IDBVR; Supplier Footprint: SOT-23-6; JLCPCB Part Class: Extended Part; Datasheet: http://www.ti.com/cn/lit/gpn/ads1110; Supplier: LCSC; Convert to PCB: yes; differential input: -; Integral non - linearity: -; Operating Temperature: -
footprint SOT-23-6_L2.9-W1.6-P0.95-LS2.8-BR
3D model SOT-23-6_L2.9-W1.6-H1.5-LS2.8-P0.95
pins: 1 VIN+, 2 GND, 3 SCL, 4 SDA, 5 VDD, 6 VIN-

## ADS8688IDBTR
designator U?
footprint TSSOP-38_L9.7-W4.4-P0.50-LS6.4-BL
3D model TSSOP-38_L9.7-W4.4-H1.0-LS6.4-P0.50
pins: 1 SDI, 2 RST#/PD#, 3 DAISY, 4 REFSEL#, 5 REFIO, 6 REFGND, 7 REFCAP, 8 AGND, 9 AVDD, 10 AUX_IN, 11 AUX_GND, 12 AIN_6P, 13 AIN_6GND, 14 AIN_7P, 15 AIN_7GND, 16 AIN_0P, 17 AIN_0GND, 18 AIN_1P, 19 AIN_1GND, 20 AIN_2GND, 21 AIN_2P, 22 AIN_3GND, 23 AIN_3P, 24 AIN_4GND, 25 AIN_4P, 26 AIN_5GND, 27 AIN_5P, 28 AGND, 29 AGND, 30 AVDD, 31 AGND, 32 AGND, 33 DGND, 34 DVDD, 35 DNC, 36 SDO, 37 SCLK, 38 CS#

## AMS1117-3.3-1A
designator U?
800mA Low Dropout Regulator
footprint LM1117I(SOT223)
pins: 1 ADJ, 2 VO, 3 VI, 4 VO

## AO3480
designator Q?
场效应管(MOSFET)；漏源电压(Vdss) 30V；连续漏极电流(Id) 5.8A；导通电阻(RDS(on)) 41mΩ@10V,5.8A；耗散功率(Pd) 1.4W；阈值电压(Vgs(th)) 1.4V；栅极电荷量(Qg) 9.5nC@15V；输入电容(Ciss@Vds) 820pF@15V；反向传输电容(Crss) 77pF
footprint SOT-23(SOT-23-3)
pins: 1 G, 2 S, 3 D

## B340A
designator D?
肖特基二极管；正向压降(Vf) 550mV@3A； 直流反向耐压(Vr) 40V； 整流电流 3A； 反向电流(Ir) 500uA@40V
footprint D-SMA
pins: 1, 2
2 alternate drawings of the same symbol

## BSMD1206C-1500T
designator F?
一次性贴片式保险丝；额定电流 5A；额定电压 (AC) 32V
footprint F1206
3D model F1206_L3.2-W1.7-H0.6
pins: 1, 2

## BX-PH2.0-3PWT
designator U?
Manufacturer: Bossie(博锡); Add into BOM: yes; Pins Structure: 1x3P; Pitch: 2mm; Reference Series: PH; Number of PINs Per Row: 3; Current Rating: 2A; Voltage Rating: 250V; Plastic Material: LCP; Supplementary Features: 辅助焊脚; Z-Height of the Board: 5.6mm; X-Length of Bottom Edge on Board (Spacing Line): 10mm; Y-Width of Bottom Edge on Board: 8.5mm; Symbol: BX-PH2.0-3P WT; Device: BX-PH2.0-3PWT; LCSC Part Name: 1x3P 间距:2mm 卧贴 系列:PH; Supplier Part: C18077891; Manufacturer Part: BX-PH2.0-3PWT; Supplier Footprint: SMD,P=2mm,卧贴; JLCPCB Part Class: 扩展库; Datasheet: https://atta.szlcsc.com/upload/public/pdf/source/20231017/BD792FFC28D3713F37031213153FD38E.pdf; Supplier: LCSC; Convert to PCB: yes; Mounting Type: 卧贴; Number of Pins: 3P; Number of Rows: 1; Row Spacing: -; Contact Material: 黄铜; Contact Plating: 锡; Operating Temperature: -25℃~+85℃; Flame Retardant Rating: -; Color: 米色
footprint CONN-SMD_3P-P2.00_BX-PH-2.0-3PWT
3D model CONN-SMD_3P-P2.00_BX-PH-2.0-3PWT
pins: 1, 2, 3, 4, 5

## CH340N
designator U??  (value not drawn)
Manufacturer: WCH(南京沁恒); Symbol: CH340N_C2977777; Add into BOM: yes; Applications Function: USB转串口; Protocol: USB 2.0; Number of Channels: 1; Voltage - Supply: 3.3V；5V; Data Rate: 2Mbps; Device: CH340N; LCSC Part Name: USB2.0芯片CH340; Supplier Part: C2977777; Manufacturer Part: CH340N; Supplier Footprint: SOP-8; JLCPCB Part Class: Extended Part; Datasheet: https://atta.szlcsc.com/upload/public/pdf/source/20240313/115CDE92081B1D6CB446704AD5D0F5F2.pdf; Supplier: LCSC; Convert to PCB: yes; Operating Temperature: -20℃~+70℃
footprint SOP-8_L4.9-W3.9-P1.27-LS6.0-BL
3D model SOP-8_L4.9-W3.9-P1.27-LS6.0-BL-1
pins: 1 UD+, 2 UD-, 3 GND, 4 RTS#, 5 VCC, 6 TXD, 7 RXD, 8 V3

## DRV8825PWPR
designator U?
footprint HTSSOP-28
pins: 1 CP1, 2 CP2, 3 VCP, 4 VMA, 5 AOUT1, 6 ISENA, 7 AOUT2, 8 BOUT2, 9 ISENB, 10 BOUT1, 11 VMB, 12 AVREF, 13 BVREF, 14 GND, 15 V3P3OUT, 16 nRESET, 17 nSLEEP, 18 nFAULT, 19 DECAY, 20 DIR, 21 nENBL, 22 STEP, 23 NC, 24 MODE0, 25 MODE1, 26 MODE2, 27 nHOME, 28 GND

## DRV8834-PWP
designator U?
footprint HTSSOP-24
pins: 1 nSleep, 2 BDecay, 3 ADecay, 4 AOut1, 5 AISEN, 6 AOut2, 7 BOut2, 8 BISEN, 9 BOut1, 10 nENBL/AENBL, 11 STEP/BENBL, 12 DIR/BPHASE, 13 M0/APHASE, 14 M1, 15 CONFIG, 16 nFAULT, 17 VCP, 18 VM, 19 VM, 20 VINT, 21 GND, 22 AVREF, 23 BVREF, 24 VREFO, 25 GND

## DSS34,SOD-123
designator D?, comment DSS34
肖特基二极管; ComponentLink1Description: 供应商链接; ComponentLink1URL: http://www.szlcsc.com/product/details_9093.html
footprint SOD-123
pins: 1 A, 2 K

## EEPROM/AT24C256C-SSHL-T_[C6482]
designator U?, comment EEPROM/AT24C256C-SSHL-T
EEPROM; ComponentLink1Description: 供应商链接; ComponentLink1URL: http://www.szlcsc.com/product/details_6947.html
footprint SOIC-8_150mil
pins: 1 A0, 2 A1, 3 A3, 4 GND, 5 SDA, 6 SCL, 7 WP, 8 VCC

## EFD-25
designator T?
变压器,EFD-25
footprint EFD25
pins: 1, 2, 3, 4, 5

## EG27324
designator U?
栅极驱动芯片；带SD功能双路驱动芯片；SOP-8；VCC电压范围：2.8-20V；静态电容<1uA；电流输出能力IO+/- 2/2.5A
footprint SOP-8_L4.9-W3.9-P1.27-LS6.0-BL
3D model SOP-8_L4.9-W3.9-P1.27-LS6.0-BL-1
pins: 1 NC, 2 INA, 3 GND, 4 INB, 5 OUTB, 6 VDD, 7 OUTA, 8 SD

## HR911130A
designator RJ?
Manufacturer: HANRUN; Convert to PCB: yes; Origin Footprint: RJ45-TH_HR911130A; Symbol: HR911130A; Device: HR911130A; Supplier: LCSC; Manufacturer Part: HR911130A; Supplier Part: C54408; Add into BOM: yes
footprint RJ45-TH_HR911130A
3D model RJ45-TH_HR911130A
pins: 11, 12, 13, 14, P1, P2 MDI0+, P3 MDI0-, P4 MDI1+, P5 MDI2+, P6 MDI2-, P7 MDI1-, P8 MDI3+, P9 MDI3-, P10, SHIELD0, SHIELD1
text: Green LED; Yellow LED; J8; J7; J6 RX-; J5; J4; J3 RX+; J2 TX-; J1 TX+; 1000pF; 75ohm; 2KV

## HR961160C
designator RJ?  (value not drawn)
footprint RJ45-SMD_HR961160C
3D model RJ45-SMD_HR961160C
pins: 1 LED1+, 2 LED1-, 3 TD+, 4 TD-, 5 CT, 6 CT, 7 RD+, 8 RD-, 9 NC, 10 CHS_GND, 11 LED-, 12 LED+, 13, 14

## IRF3205STRLPBF
designator Q?
footprint TO-263-2_L10.0-W9.1-P5.08-LS15.2-TL
3D model TO-263-2_L10.2-W8.7-H4.5_LS15.2-P2.54
pins: 1 G, 3 S, 4 D

## KF2EDGR-3.81-4P
designator P?
C441184
signal-integrity model Connector
footprint KF2EDGK 3.81mm-4P
pins: 1, 2, 3, 4

## L7824CD2T-TR
designator U?
Symbol: L7824CD2T-TR
footprint D2PAK_L9.1-W10.0-P2.54-LS15.3-TL
3D model D2PAK_L9.1-W10.0-P2.54-LS15.3-TL
pins: 1 IN, 3 OUT, 4 GND

## LL101C-GS08
designator U?
正向压降(Vf):390mV@1mA;直流反向耐压(Vr):40V;整流电流:30mA;
footprint MINIMELF_L3.5-W1.5-RD
3D model MINIMELF_L3.5-W1.5-H1.5-RD
pins: 1 C, 2 A

## LL103A-GS08
designator D?
肖特基二极管;正向压降(Vf) 600mV@200mA;直流反向耐压(Vr) 40V;整流电流 200mA;反向电流(Ir) 5uA@30V
footprint LL-34_L3.5-W1.5-RD
3D model LL-34_L3.5-W1.5
pins: 1 C, 2 A

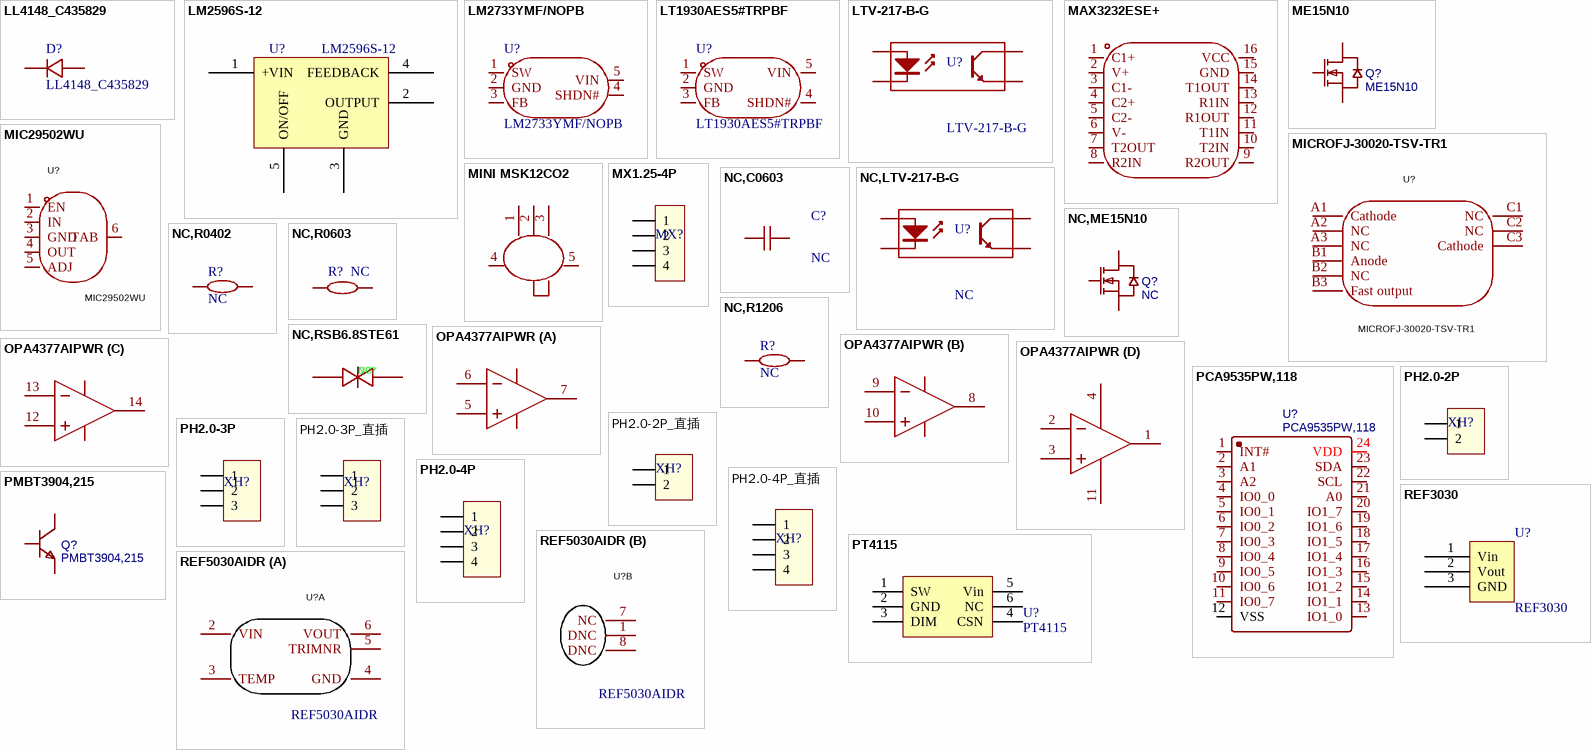
[diagram p4: symbols LL4148_C435829 to REF5030AIDR]

## LL4148_C435829
designator D?
二极管配置:-;正向压降(Vf):1V@10mA;直流反向耐压(Vr):75V;整流电流:200mA;反向恢复时间(trr):4ns;
footprint LL-34_L3.5-W1.5-RD
3D model LL-34_L3.5-W1.5
pins: 1 C, 2 A

## LM2596S-12
designator U?
footprint TO-263-5
pins: 1 +VIN, 2 OUTPUT, 3 GND, 4 FEEDBACK, 5 ON/OFF

## LM2733YMF/NOPB
designator U?
功能类型:升压型;输出类型:固定;输入电压:2.7V~14V;输出电压:-;输出电流:1A;
footprint SOT-23-5_L3.0-W1.7-P0.95-LS2.8-BR
3D model SOT-23-5_L2.9-W1.6-H1.1-LS2.8-P0.95
pins: 1 SW, 2 GND, 3 FB, 4 SHDN#, 5 VIN

## LT1930AES5#TRPBF
designator U?
功能类型:升降压型;输出类型:可调;输入电压:2.45V~16V;输出电压:2.45V~36V;输出电流(最大值):1A;
footprint TSOT-23-5_L2.9-W1.6-P0.95-LS2.8-BL
3D model TSOT-23-5_L2.9-W1.6-H1.00-LS2.8-P0.95
pins: 1 SW, 2 GND, 3 FB, 4 SHDN#, 5 VIN

## LTV-217-B-G
designator U?
晶体管输出光耦;输入电压类型 DC;输出类型 光电三极管;正向压降(Vf) 1.2V;输出电流 50mA;隔离电压(Vrms) 3kV;直流反向耐压(Vr) 6V;负载电压 70V;集射极饱和电压(VCE(sat)) 400mV@2.4mA,8mA;上升时间(tr) 2us@2mA,100Ω;下降时间 3us@2mA,100Ω
footprint SOP-4_P1.27
pins: 1 A "Anode", 2 K "Cathode", 3 E "Emitter", 4 C "Collector"

## MAX3232ESE+
designator U??  (value not drawn)
Manufacturer: ADI(亚德诺)/MAXIM(美信); Add into BOM: yes; Number of Drivers: 2; Data Rate: 235Kbps; Voltage - Supply: 3V~5.5V; ESD Protect: ±15kV; charge pump: 有; Symbol: MAX3232ESE+; Device: MAX3232ESE+; LCSC Part Name: MAX3222/MAX3232/MAX3237/MAX3241 3.0V 至 5.5V，低功耗，最高 1Mbps，真正的 RS-232 收发器使用四个 0.1uF 外部电容; Supplier Part: C143435; Manufacturer Part: MAX3232ESE+; Supplier Footprint: SOIC-16; JLCPCB Part Class: Extended Part; Datasheet: https://item.szlcsc.com/datasheet/MAX3232ESE%252B/154766.html; Supplier: LCSC; Convert to PCB: yes; Type: 收发器; Number of Receivers: 2; Operating Temperature: -40℃~+85℃
footprint SOIC-16_L9.9-W3.9-P1.27-LS6.0-BL
3D model SOIC-16_L9.9-W3.9-H1.8-LS6.0-P1.27
pins: 1 C1+, 2 V+, 3 C1-, 4 C2+, 5 C2-, 6 V-, 7 T2OUT, 8 R2IN, 9 R2OUT, 10 T2IN, 11 T1IN, 12 R1OUT, 13 R1IN, 14 T1OUT, 15 GND, 16 VCC

## ME15N10
designator Q?
场效应管(MOSFET);N沟道
footprint TO-252-2_L6.6-W6.1-P4.57-LS9.9-TL-CW
pins: 1 G, 2 D, 3 S

## MIC29502WU
designator U?
线性稳压器(LDO)
footprint TO-263-5_L10.2-W9.9-P1.70-LS14.4-TL
3D model TO-263-5-5P_L10.2-W8.7-H4.5-LS14.4-P1.70
pins: 1 EN, 2 IN, 3 GND, 4 OUT, 5 ADJ, 6 TAB

## MICROFJ-30020-TSV-TR1
designator U?
footprint SENSOR-SMD_MICROFJ-300XX-TSV (Footprint not found)
pins: A1 Cathode, A2 NC, A3 NC, B1 Anode, B2 NC, B3 Fast output, C1 NC, C2 NC, C3 Cathode

## MINI MSK12CO2
designator SW??  (value not drawn)
Manufacturer: SHOU HAN(首韩); Add into BOM: yes; Circuit: 单刀双掷; Actuator Style: 矩形柱状; Switch Height: 1.4mm; Actuator Color: 白色; Current Rating: 50mA; Voltage Rating: 12V; Life: 1万次; Symbol: MINI MSK12CO2; Device: MINI MSK12CO2; LCSC Part Name: 迷你七脚两档侧拨拨动 mini七7脚 微型拨动; Supplier Part: C2681570; Manufacturer Part: MINI MSK12CO2; Supplier Footprint: SMD; JLCPCB Part Class: Extended Part; Datasheet: https://item.szlcsc.com/datasheet/MINI%2520MSK12CO2/2774913.html; Supplier: LCSC; Convert to PCB: yes; Termination Style: SMD接片; Length: 5mm; Width: 2.75mm; Mounting Type: 卧贴; Operating Temperature: -25℃~+70℃
footprint SW-SMD_MSK12CO2
3D model SW-SMD_MSK12CO2
pins: 1, 2, 3, 4, 5

## MX1.25-4P
designator MX?  (value not drawn)
footprint CONN-TH_4P-P1.25_HCTL_HC-1.25-4AW
pins: 1, 2, 3, 4

## NC,C0603
designator C?, comment NC
ComponentLink1Description: 供应商链接; ComponentLink1URL: http://www.szlcsc.com/product/details_16531.html
footprint C0603
pins: 1, 2

## NC,LTV-217-B-G
designator U?, comment NC
footprint SOP-4_P1.27
pins: 1 A "Anode", 2 K "Cathode", 3 E "Emitter", 4 C "Collector"

## NC,ME15N10
designator Q?, comment NC
footprint TO-252-2_L6.6-W6.1-P4.57-LS9.9-TL-CW
pins: 1 G, 2 D, 3 S

## NC,R0402
designator R?, comment NC
3D model R0603
footprint R0402
pins: 1, 2

## NC,R0603
designator R?, comment NC
footprint R0603
3D model R0603
pins: 1, 2

## NC,R1206
designator R?, comment NC
贴片电阻
footprint R1206
3D model R0603
pins: 1, 2

## NC,RSB6.8STE61
designator D??, comment NC
RSB6.8STE61
footprint SOD-523_L1.2-W0.8-LS1.6-BI
3D model SOD-523_L1.2-W0.8-LS1.6-BI
pins: 1 C, 2 A

## OPA4377AIPWR
designator U?  (value not drawn)
footprint TSSOP-14_L5.0-W4.4-P0.65-LS6.4-BL
3D model TSSOP-14_L5.0-W4.4-H1.0-LS6.4-P0.65
part A pins: 5 IN B+, 6 IN B-, 7 OUT B
part B pins: 8 OUT C, 9 IN C-, 10 IN C+
part C pins: 12 IN D+, 13 IN D-, 14 OUT D
part D pins: 1 OUT A, 2 IN A-, 3 IN A+, 4 V+, 11 V-

## PCA9535PW,118
designator U?
footprint TSSOP-24_L7.8-W4.4-P0.65-LS6.4-BL
pins: 1 INT#, 2 A1, 3 A2, 4 IO0_0, 5 IO0_1, 6 IO0_2, 7 IO0_3, 8 IO0_4, 9 IO0_5, 10 IO0_6, 11 IO0_7, 12 VSS, 13 IO1_0, 14 IO1_1, 15 IO1_2, 16 IO1_3, 17 IO1_4, 18 IO1_5, 19 IO1_6, 20 IO1_7, 21 A0, 22 SCL, 23 SDA, 24 VDD

## PH2.0-2P
designator XH?  (value not drawn)
footprint PH2.0-2P 弯针
pins: 1, 2

## PH2.0-2P_直插
designator XH?, comment PH2.0-2P  (value not drawn)
footprint PH2.0-2P 直插
pins: 1, 2

## PH2.0-3P
designator XH?  (value not drawn)
footprint PH2.0-3P 弯针
pins: 1, 2, 3

## PH2.0-3P_直插
designator XH?, comment PH2.0-3P  (value not drawn)
footprint PH2.0-3P 直插
pins: 1, 2, 3

## PH2.0-4P
designator XH?  (value not drawn)
footprint PH2.0-4P 弯针
pins: 1, 2, 3, 4

## PH2.0-4P_直插
designator XH?, comment PH2.0-4P  (value not drawn)
footprint PH2.0-4P 直插
pins: 1, 2, 3, 4

## PMBT3904,215
designator Q?
footprint SOT-23(SOT-23-3)
pins: 1, 2, 3

## PT4115
designator U?
footprint SOT-89-5
pins: 1 SW, 2 GND, 3 DIM, 4 CSN, 5 Vin, 6 NC

## REF3030
designator U?
REF3030AIDBZR/REF3030AIDBZT
footprint SOT-23(SOT-23-3)
pins: 1 Vin, 2 Vout, 3 GND

## REF5030AIDR
designator U?
footprint SOIC-8_L5.0-W4.0-P1.27-LS6.0-BL
3D model SOIC-8_L4.9-W3.9-H1.7-LS6.0-P1.27
part A pins: 2 VIN, 3 TEMP, 4 GND, 5 TRIMNR, 6 VOUT
part B pins: 1 DNC, 7 NC, 8 DNC

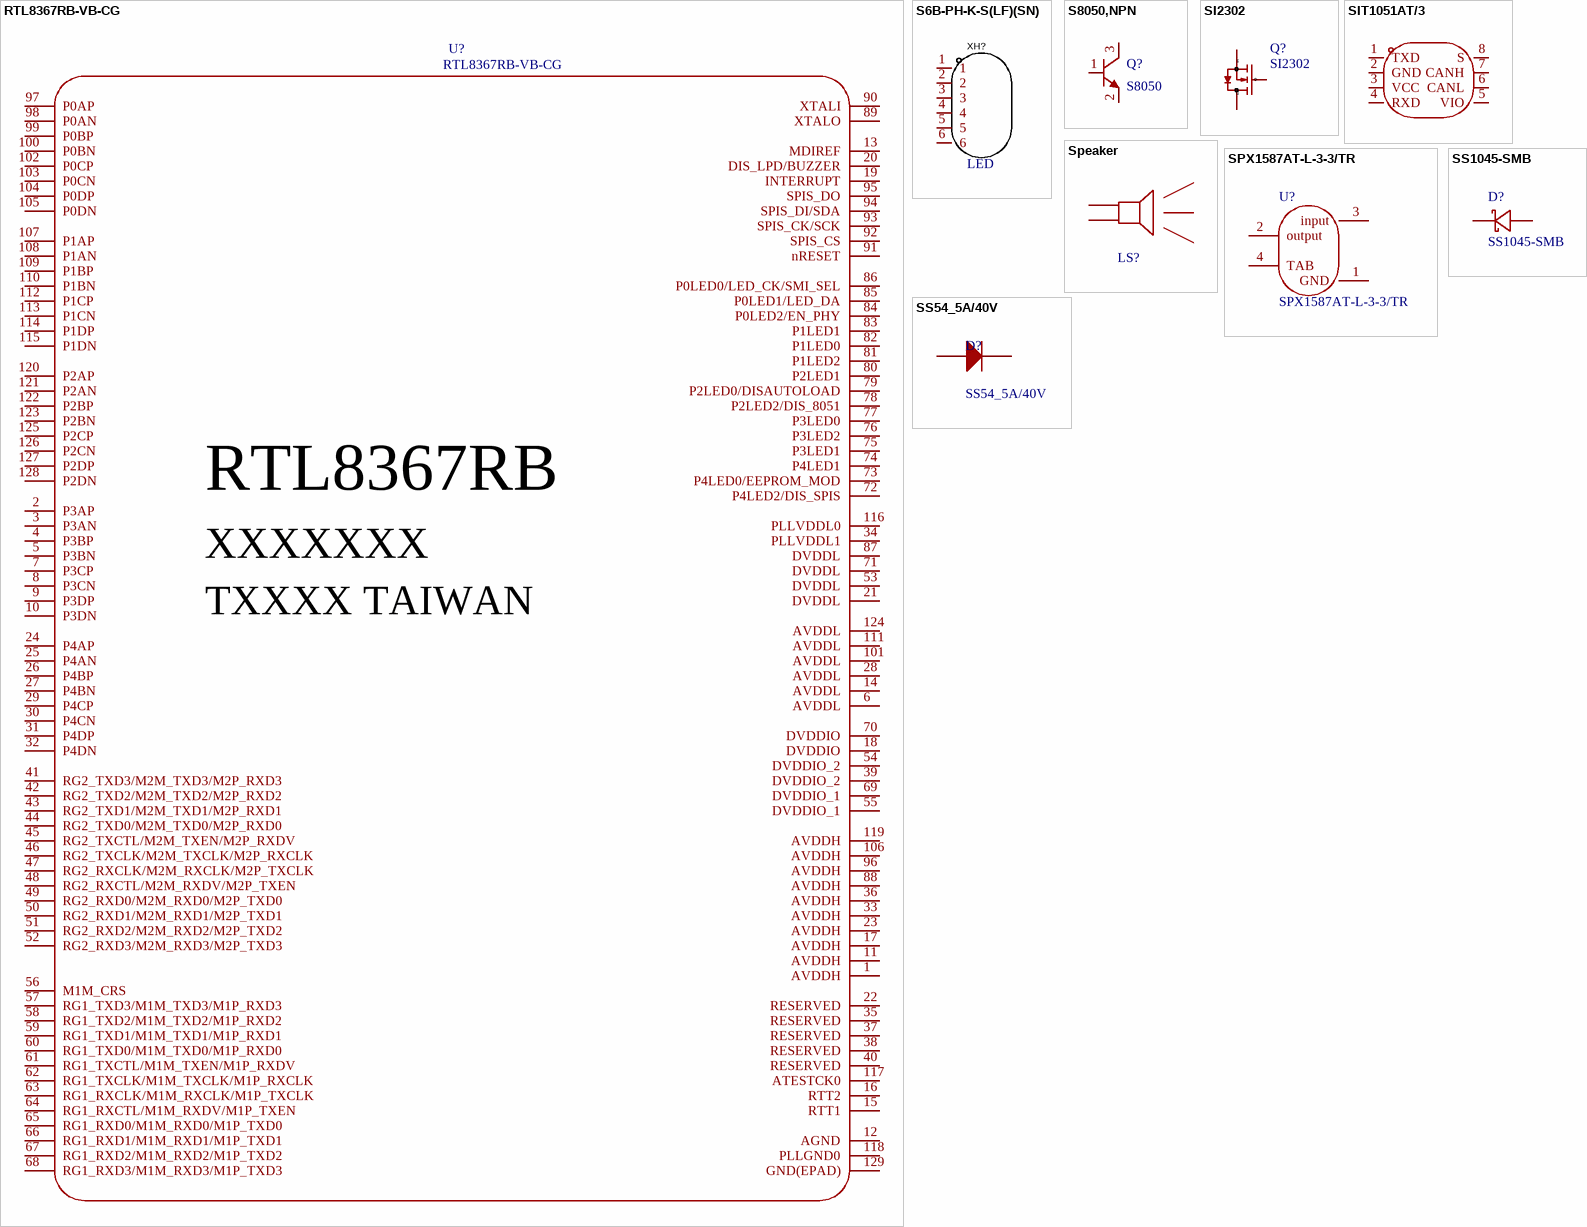
[diagram p5: symbols RTL8367RB-VB-CG to SS1045-SMB]

## RTL8367RB-VB-CG
designator U?
以太网收发器
footprint LQFP-128_L14.0-W14.0-P0.40-LS16.0-BL-EP5.8
pins: 1 AVDDH, 2 P3AP, 3 P3AN, 4 P3BP, 5 P3BN, 6 AVDDL, 7 P3CP, 8 P3CN, 9 P3DP, 10 P3DN, 11 AVDDH, 12 AGND, 13 MDIREF, 14 AVDDL, 15 RTT1, 16 RTT2, 17 AVDDH, 18 DVDDIO, 19 INTERRUPT, 20 DIS_LPD/BUZZER, 21 DVDDL, 22 RESERVED, 23 AVDDH, 24 P4AP, 25 P4AN, 26 P4BP, 27 P4BN, 28 AVDDL, 29 P4CP, 30 P4CN, 31 P4DP, 32 P4DN, 33 AVDDH, 34 PLLVDDL1, 35 RESERVED, 36 AVDDH, 37 RESERVED, 38 RESERVED, 39 DVDDIO_2, 40 RESERVED, 41 RG2_TXD3/M2M_TXD3/M2P_RXD3, 42 RG2_TXD2/M2M_TXD2/M2P_RXD2, 43 RG2_TXD1/M2M_TXD1/M2P_RXD1, 44 RG2_TXD0/M2M_TXD0/M2P_RXD0, 45 RG2_TXCTL/M2M_TXEN/M2P_RXDV, 46 RG2_TXCLK/M2M_TXCLK/M2P_RXCLK, 47 RG2_RXCLK/M2M_RXCLK/M2P_TXCLK, 48 RG2_RXCTL/M2M_RXDV/M2P_TXEN, 49 RG2_RXD0/M2M_RXD0/M2P_TXD0, 50 RG2_RXD1/M2M_RXD1/M2P_TXD1, 51 RG2_RXD2/M2M_RXD2/M2P_TXD2, 52 RG2_RXD3/M2M_RXD3/M2P_TXD3, 53 DVDDL, 54 DVDDIO_2, 55 DVDDIO_1, 56 M1M_CRS, 57 RG1_TXD3/M1M_TXD3/M1P_RXD3, 58 RG1_TXD2/M1M_TXD2/M1P_RXD2, 59 RG1_TXD1/M1M_TXD1/M1P_RXD1, 60 RG1_TXD0/M1M_TXD0/M1P_RXD0, 61 RG1_TXCTL/M1M_TXEN/M1P_RXDV, 62 RG1_TXCLK/M1M_TXCLK/M1P_RXCLK, 63 RG1_RXCLK/M1M_RXCLK/M1P_TXCLK, 64 RG1_RXCTL/M1M_RXDV/M1P_TXEN, 65 RG1_RXD0/M1M_RXD0/M1P_TXD0, 66 RG1_RXD1/M1M_RXD1/M1P_TXD1, 67 RG1_RXD2/M1M_RXD2/M1P_TXD2, 68 RG1_RXD3/M1M_RXD3/M1P_TXD3, 69 DVDDIO_1, 70 DVDDIO, 71 DVDDL, 72 P4LED2/DIS_SPIS, 73 P4LED0/EEPROM_MOD, 74 P4LED1, 75 P3LED1, 76 P3LED2, 77 P3LED0, 78 P2LED2/DIS_8051, 79 P2LED0/DISAUTOLOAD, 80 P2LED1, 81 P1LED2, 82 P1LED0, 83 P1LED1, 84 P0LED2/EN_PHY, 85 P0LED1/LED_DA, 86 P0LED0/LED_CK/SMI_SEL, 87 DVDDL, 88 AVDDH, 89 XTALO, 90 XTALI, 91 nRESET, 92 SPIS_CS, 93 SPIS_CK/SCK, 94 SPIS_DI/SDA, 95 SPIS_DO, 96 AVDDH, 97 P0AP, 98 P0AN, 99 P0BP, 100 P0BN, 101 AVDDL, 102 P0CP, 103 P0CN, 104 P0DP, 105 P0DN, 106 AVDDH, 107 P1AP, 108 P1AN, 109 P1BP, 110 P1BN, 111 AVDDL, 112 P1CP, 113 P1CN, 114 P1DP, 115 P1DN, 116 PLLVDDL0, 117 ATESTCK0, 118 PLLGND0, 119 AVDDH, 120 P2AP, 121 P2AN, 122 P2BP, 123 P2BN, 124 AVDDL, 125 P2CP, 126 P2CN, 127 P2DP, 128 P2DN, 129 GND(EPAD)
text: RTL8367RB; XXXXXXX; TXXXX TAIWAN

## S6B-PH-K-S(LF)(SN)
designator XH?, comment LED
footprint CONN-TH_6P-P2.00_S6B-PH-K-S-LF-SN
3D model CONN-TH_6P-P2.00_S6B-PH-K-S-LF-SN
pins: 1, 2, 3, 4, 5, 6

## S8050,NPN
designator Q?, comment S8050
NPN Bipolar Transistor
simulation model NPN
signal-integrity model NPN
footprint SOT-23-3L (http://www.aosmd.com/res/packaging_information/SOT-23-3L.pdf)
pins: 1 B, 2 E, 3 C

## SI2302
designator Q?
Manufacturer: Hottech; Convert to PCB: yes; Origin Footprint: SOT-23(SOT-23-3); Symbol: SI2302; Device: SI2302; Supplier: LCSC; Manufacturer Part: SI2302; Supplier Part: C181087; JLCPCB Part Class: Extend; Add into BOM: yes
pins: 1 G, 2 S, 3 D

## SIT1051AT/3
designator U??  (value not drawn)
Manufacturer: SIT(芯力特); Add into BOM: yes; Data Rate: 5Mbps; Supply Voltage: 4.5V~5.5V; Symbol: SIT1051AT/3; Device: SIT1051AT/3; LCSC Part Name: SIT1051A CAN FD静音模式总线收发器; Supplier Part: C5382551; Manufacturer Part: SIT1051AT/3; Supplier Footprint: SOP-8; JLCPCB Part Class: Extended Part; Datasheet: https://atta.szlcsc.com/upload/public/pdf/source/20230320/C85B42C3F9CED8A268DA50D1BF0BE466.pdf; Supplier: LCSC; Convert to PCB: yes; Type: CAN-FD收发器; Supply Current: -; Operating Temperature: -40℃~+150℃
footprint SOP-8_L4.9-W3.9-P1.27-LS6.0-BL
3D model SOP-8_L4.9-W3.9-P1.27-LS6.0-BL-1
pins: 1 TXD, 2 GND, 3 VCC, 4 RXD, 5 VIO, 6 CANL, 7 CANH, 8 S

## Speaker
designator LS?  (value not drawn)
Loudspeaker
footprint BUZZER
pins: 1, 2

## SPX1587AT-L-3-3/TR
designator U?
线性稳压器(LDO);输出类型 固定;工作电压 10V;输出电压 3.3V;输出电流 3A;电源纹波抑制比(PSRR) -;压差 1.2V@(3A);静态电流(Iq) 10mA;噪声 -;特性 过热保护；过流保护;工作温度 -40℃~+125℃;输出极性 正极;输出通道数 1
footprint TO-263-3_L8.6-W10.2-P2.54-LS14.4-TL
pins: 1 GND, 2 output, 3 input, 4 TAB

## SS54_5A/40V
designator D?
肖特基二极管; ComponentLink1Description: Manufacturer Link; ComponentLink1URL: http://www.fairchildsemi.com/; ComponentLink2Description: Datasheet; ComponentLink2URL: http://www.fairchildsemi.com/ds/1N%2F1N4001.pdf
footprint SMA(DO-214AC)_S5
pins: 1 A, 2 K

## SS1045-SMB
designator D?
肖特基二极管；正向压降(Vf) 550mV@10A； 直流反向耐压(Vr) 45V； 整流电流 10A；反向电流(Ir) 100nA
footprint SMB_L4.4-W3.6-LS5.3-RD
3D model SMB_L4.4-W3.6-LS5.3-RD
pins: 1, 2

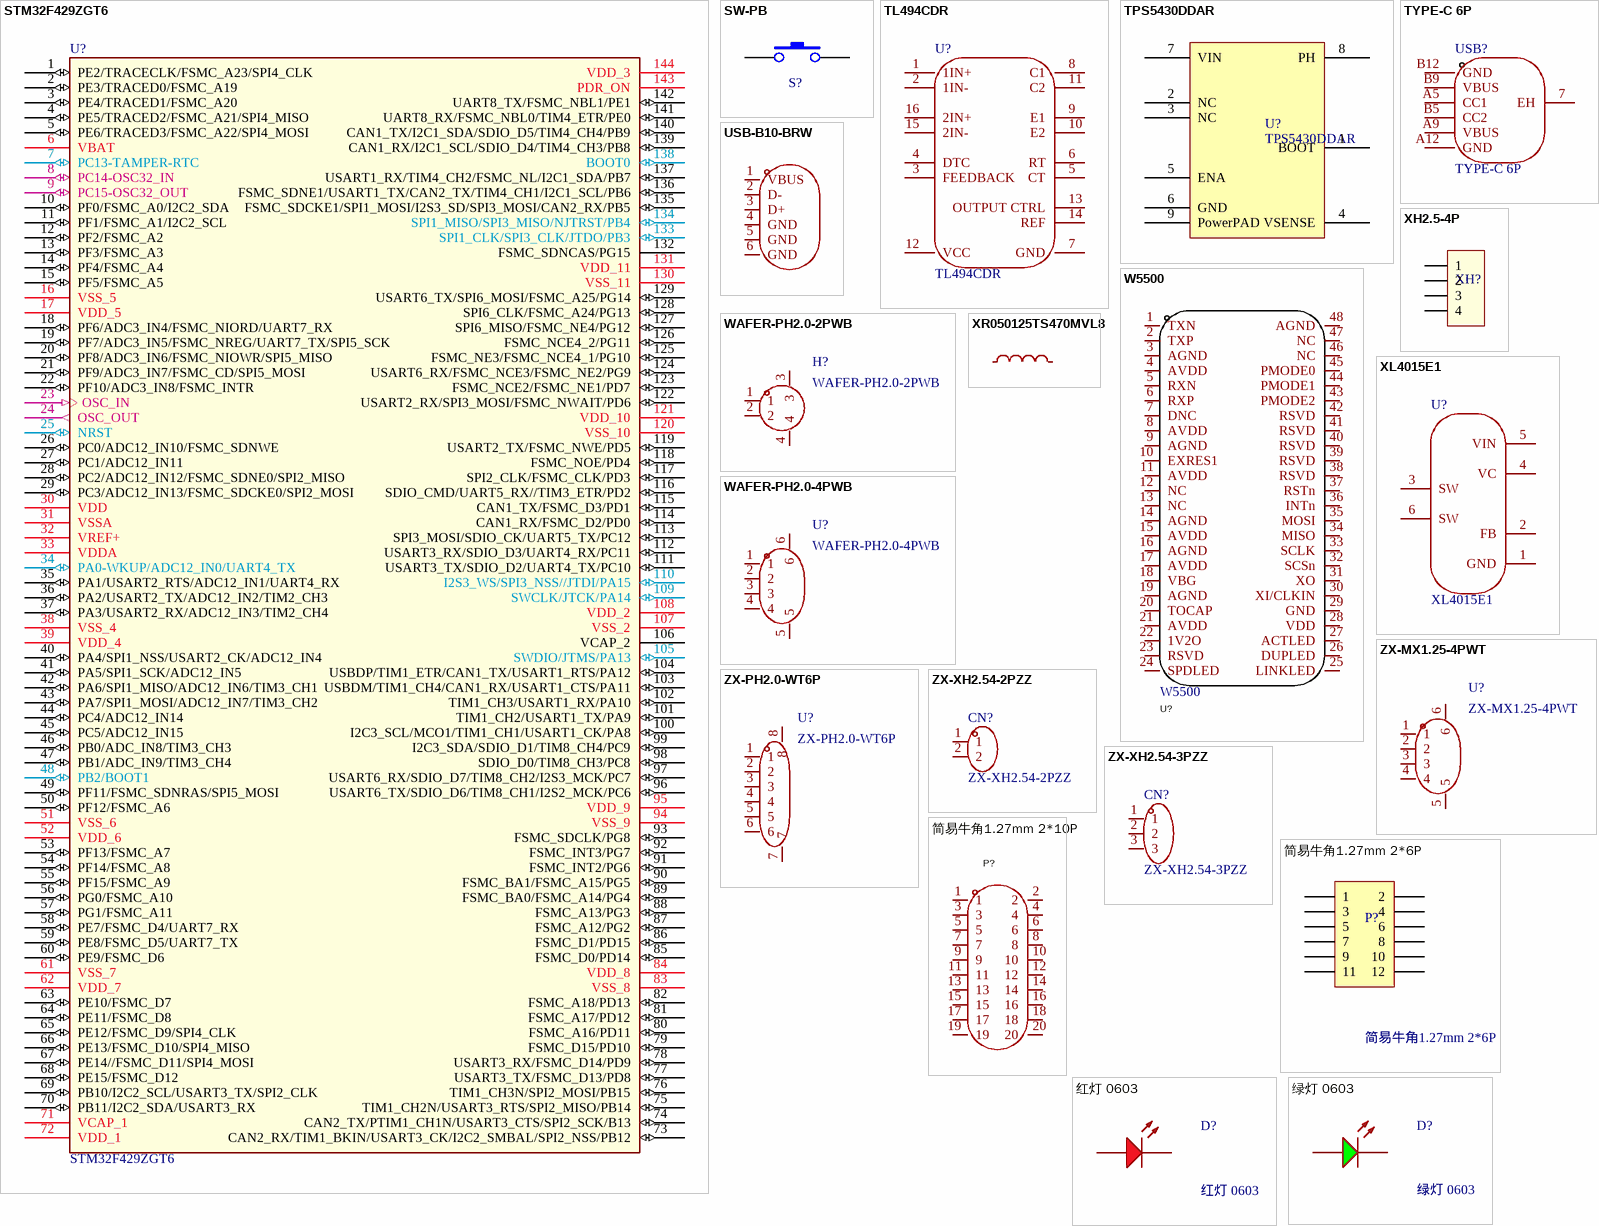
[diagram p6: symbols STM32F429ZGT6 to 绿灯 0603]

## STM32F429ZGT6
designator U?
ARM; ComponentLink1Description: 供应商链接; ComponentLink1URL: http://www.szlcsc.com/product/details_47529.html
footprint LQFP-144_20x20x05P
pins: 1 PE2/TRACECLK/FSMC_A23/SPI4_CLK (io), 2 PE3/TRACED0/FSMC_A19 (io), 3 PE4/TRACED1/FSMC_A20 (io), 4 PE5/TRACED2/FSMC_A21/SPI4_MISO (io), 5 PE6/TRACED3/FSMC_A22/SPI4_MOSI (io), 6 VBAT (power), 7 PC13-TAMPER-RTC (io), 8 PC14-OSC32_IN (io), 9 PC15-OSC32_OUT (io), 10 PF0/FSMC_A0/I2C2_SDA (io), 11 PF1/FSMC_A1/I2C2_SCL (io), 12 PF2/FSMC_A2 (io), 13 PF3/FSMC_A3 (io), 14 PF4/FSMC_A4 (io), 15 PF5/FSMC_A5 (io), 16 VSS_5 (power), 17 VDD_5 (power), 18 PF6/ADC3_IN4/FSMC_NIORD/UART7_RX (io), 19 PF7/ADC3_IN5/FSMC_NREG/UART7_TX/SPI5_SCK (io), 20 PF8/ADC3_IN6/FSMC_NIOWR/SPI5_MISO (io), 21 PF9/ADC3_IN7/FSMC_CD/SPI5_MOSI (io), 22 PF10/ADC3_IN8/FSMC_INTR (io), 23 OSC_IN (in), 24 OSC_OUT (out), 25 NRST (io), 26 PC0/ADC12_IN10/FSMC_SDNWE (io), 27 PC1/ADC12_IN11 (io), 28 PC2/ADC12_IN12/FSMC_SDNE0/SPI2_MISO (io), 29 PC3/ADC12_IN13/FSMC_SDCKE0/SPI2_MOSI (io), 30 VDD (power), 31 VSSA (power), 32 VREF+ (power), 33 VDDA (power), 34 PA0-WKUP/ADC12_IN0/UART4_TX (io), 35 PA1/USART2_RTS/ADC12_IN1/UART4_RX (io), 36 PA2/USART2_TX/ADC12_IN2/TIM2_CH3 (io), 37 PA3/USART2_RX/ADC12_IN3/TIM2_CH4 (io), 38 VSS_4 (power), 39 VDD_4 (power), 40 PA4/SPI1_NSS/USART2_CK/ADC12_IN4 (io), 41 PA5/SPI1_SCK/ADC12_IN5 (io), 42 PA6/SPI1_MISO/ADC12_IN6/TIM3_CH1 (io), 43 PA7/SPI1_MOSI/ADC12_IN7/TIM3_CH2 (io), 44 PC4/ADC12_IN14 (io), 45 PC5/ADC12_IN15 (io), 46 PB0/ADC_IN8/TIM3_CH3 (io), 47 PB1/ADC_IN9/TIM3_CH4 (io), 48 PB2/BOOT1 (io), 49 PF11/FSMC_SDNRAS/SPI5_MOSI (io), 50 PF12/FSMC_A6 (io), 51 VSS_6 (power), 52 VDD_6 (power), 53 PF13/FSMC_A7 (io), 54 PF14/FSMC_A8 (io), 55 PF15/FSMC_A9 (io), 56 PG0/FSMC_A10 (io), 57 PG1/FSMC_A11 (io), 58 PE7/FSMC_D4/UART7_RX (io), 59 PE8/FSMC_D5/UART7_TX (io), 60 PE9/FSMC_D6 (io), 61 VSS_7 (power), 62 VDD_7 (power), 63 PE10/FSMC_D7 (io), 64 PE11/FSMC_D8 (io), 65 PE12/FSMC_D9/SPI4_CLK (io), 66 PE13/FSMC_D10/SPI4_MISO (io), 67 PE14//FSMC_D11/SPI4_MOSI (io), 68 PE15/FSMC_D12 (io), 69 PB10/I2C2_SCL/USART3_TX/SPI2_CLK (io), 70 PB11/I2C2_SDA/USART3_RX (io), 71 VCAP_1 (power), 72 VDD_1 (power), 73 CAN2_RX/TIM1_BKIN/USART3_CK/I2C2_SMBAL/SPI2_NSS/PB12 (io), 74 CAN2_TX/PTIM1_CH1N/USART3_CTS/SPI2_SCK/B13 (io), 75 TIM1_CH2N/USART3_RTS/SPI2_MISO/PB14 (io), 76 TIM1_CH3N/SPI2_MOSI/PB15 (io), 77 USART3_TX/FSMC_D13/PD8 (io), 78 USART3_RX/FSMC_D14/PD9 (io), 79 FSMC_D15/PD10 (io), 80 FSMC_A16/PD11 (io), 81 FSMC_A17/PD12 (io), 82 FSMC_A18/PD13 (io), 83 VSS_8 (power), 84 VDD_8 (power), 85 FSMC_D0/PD14 (io), 86 FSMC_D1/PD15 (io), 87 FSMC_A12/PG2 (io), 88 FSMC_A13/PG3 (io), 89 FSMC_BA0/FSMC_A14/PG4 (io), 90 FSMC_BA1/FSMC_A15/PG5 (io), 91 FSMC_INT2/PG6 (io), 92 FSMC_INT3/PG7 (io), 93 FSMC_SDCLK/PG8 (io), 94 VSS_9 (power), 95 VDD_9 (power), 96 USART6_TX/SDIO_D6/TIM8_CH1/I2S2_MCK/PC6 (io), 97 USART6_RX/SDIO_D7/TIM8_CH2/I2S3_MCK/PC7 (io), 98 SDIO_D0/TIM8_CH3/PC8 (io), 99 I2C3_SDA/SDIO_D1/TIM8_CH4/PC9 (io), 100 I2C3_SCL/MCO1/TIM1_CH1/USART1_CK/PA8 (io), 101 TIM1_CH2/USART1_TX/PA9 (io), 102 TIM1_CH3/USART1_RX/PA10 (io), 103 USBDM/TIM1_CH4/CAN1_RX/USART1_CTS/PA11 (io), 104 USBDP/TIM1_ETR/CAN1_TX/USART1_RTS/PA12 (io), 105 SWDIO/JTMS/PA13 (io), 106 VCAP_2 (hiz), 107 VSS_2 (power), 108 VDD_2 (power), 109 SWCLK/JTCK/PA14 (io), 110 I2S3_WS/SPI3_NSS//JTDI/PA15 (io), 111 USART3_TX/SDIO_D2/UART4_TX/PC10 (io), 112 USART3_RX/SDIO_D3/UART4_RX/PC11 (io), 113 SPI3_MOSI/SDIO_CK/UART5_TX/PC12 (io), 114 CAN1_RX/FSMC_D2/PD0 (io), 115 CAN1_TX/FSMC_D3/PD1 (io), 116 SDIO_CMD/UART5_RX//TIM3_ETR/PD2 (io), 117 SPI2_CLK/FSMC_CLK/PD3 (io), 118 FSMC_NOE/PD4 (io), 119 USART2_TX/FSMC_NWE/PD5 (io), 120 VSS_10 (power), 121 VDD_10 (power), 122 USART2_RX/SPI3_MOSI/FSMC_NWAIT/PD6 (io), 123 FSMC_NCE2/FSMC_NE1/PD7 (io), 124 USART6_RX/FSMC_NCE3/FSMC_NE2/PG9 (io), 125 FSMC_NE3/FSMC_NCE4_1/PG10 (io), 126 FSMC_NCE4_2/PG11 (io), 127 SPI6_MISO/FSMC_NE4/PG12 (io), 128 SPI6_CLK/FSMC_A24/PG13 (io), 129 USART6_TX/SPI6_MOSI/FSMC_A25/PG14 (io), 130 VSS_11 (power), 131 VDD_11 (power), 132 FSMC_SDNCAS/PG15, 133 SPI1_CLK/SPI3_CLK/JTDO/PB3 (io), 134 SPI1_MISO/SPI3_MISO/NJTRST/PB4 (io), 135 FSMC_SDCKE1/SPI1_MOSI/I2S3_SD/SPI3_MOSI/CAN2_RX/PB5 (io), 136 FSMC_SDNE1/USART1_TX/CAN2_TX/TIM4_CH1/I2C1_SCL/PB6 (io), 137 USART1_RX/TIM4_CH2/FSMC_NL/I2C1_SDA/PB7 (io), 138 BOOT0 (io), 139 CAN1_RX/I2C1_SCL/SDIO_D4/TIM4_CH3/PB8 (io), 140 CAN1_TX/I2C1_SDA/SDIO_D5/TIM4_CH4/PB9 (io), 141 UART8_RX/FSMC_NBL0/TIM4_ETR/PE0 (io), 142 UART8_TX/FSMC_NBL1/PE1 (io), 143 PDR_ON (power), 144 VDD_3 (power)

## SW-PB
designator S?, comment SW  (value not drawn)
footprint SW-S2 贴片
pins: 1, 2

## TL494CDR
designator U?
DC-DC电源芯片；TL494 40V、0.2A 300KHz PWM 控制器； 工作电压 7V~40V
footprint SOIC-16_L9.9-W3.9-P1.27-LS6.0-BL
3D model SOIC-16_L9.9-W3.9-H1.8-LS6.0-P1.27
pins: 1 1IN+, 2 1IN-, 3 FEEDBACK, 4 DTC, 5 CT, 6 RT, 7 GND, 8 C1, 9 E1, 10 E2, 11 C2, 12 VCC, 13 OUTPUT CTRL, 14 REF, 15 2IN-, 16 2IN+

## TPS5430DDAR
designator U?
DC-DC电源芯片；降压型；可调； 工作电压 5.5V~36V；输出电压 1.221V~32.04V；输出电流 3A;开关频率 500kHz
footprint IC-SO8-PAD
pins: 1 BOOT, 2 NC, 3 NC, 4 VSENSE, 5 ENA, 6 GND, 7 VIN, 8 PH, 9 PowerPAD
2 alternate drawings of the same symbol

## TYPE-C 6P
designator USB?
USB连接器;连接器类型 Type-C;协议标准 USB 3.1;公母 母;安装方式 卧贴;触点数量 6P;端口数量 1;额定电流 - 电源 5A;额定电压 20V;插拔寿命 3千次;胶芯颜色 黑色;工作温度 -40℃~+85℃
footprint TYPE-C-SMD_TYPE-C-6P
pins: 7 EH, A5 CC1, A9 VBUS, A12 GND, B5 CC2, B9 VBUS, B12 GND

## USB-B10-BRW
designator USB??  (value not drawn)
Manufacturer: XUNPU(讯普); Add into BOM: yes; Connector Type: Type-B; Protocol Standard: USB 2.0; Gender: 母; Number of Contacts: 4P; Number of Ports: 1; Current Rating-Power: 1.5A; Voltage Rating: 30V; Detection color: 白色; Symbol: USB-B10-BRW; Device: USB-B10-BRW; LCSC Part Name: Type-B 母 弯插; Supplier Part: C720549; Manufacturer Part: USB-B10-BRW; Supplier Footprint: 弯插; JLCPCB Part Class: Extended Part; Datasheet: https://item.szlcsc.com/datasheet/USB-B10-BRW/763556.html; Supplier: LCSC; Convert to PCB: yes; Mounting Type: 弯插; Length: 16.3mm; Operating Temperature: -20℃~+70℃
footprint USB-B-TH_USB-B10-BRW
3D model USB-B-TH_USB-B10-BRW
pins: 1 VBUS, 2 D-, 3 D+, 4 GND, 5 GND, 6 GND

## W5500
designator U?
footprint LQFP-48_L7.0-W7.0-P0.50-LS9.0-BL
3D model LQFP-48_L7.0-W7.0-H1.4-LS9.0-P0.50
pins: 1 TXN, 2 TXP, 3 AGND, 4 AVDD, 5 RXN, 6 RXP, 7 DNC, 8 AVDD, 9 AGND, 10 EXRES1, 11 AVDD, 12 NC, 13 NC, 14 AGND, 15 AVDD, 16 AGND, 17 AVDD, 18 VBG, 19 AGND, 20 TOCAP, 21 AVDD, 22 1V2O, 23 RSVD, 24 SPDLED, 25 LINKLED, 26 DUPLED, 27 ACTLED, 28 VDD, 29 GND, 30 XI/CLKIN, 31 XO, 32 SCSn, 33 SCLK, 34 MISO, 35 MOSI, 36 INTn, 37 RSTn, 38 RSVD, 39 RSVD, 40 RSVD, 41 RSVD, 42 RSVD, 43 PMODE2, 44 PMODE1, 45 PMODE0, 46 NC, 47 NC, 48 AGND

## WAFER-PH2.0-2PWB
designator H?
Manufacturer: XUNPU(讯普); Add into BOM: yes; Pins Structure: 1x2P; Pitch: 2mm; Reference Series: PH; Number of PINs Per Row: 2; Current Rating: 2A; Voltage Rating: 250V; Plastic Material: LCP; Supplementary Features: 辅助焊脚; Z-Height of the Board: 5.6mm; X-Length of Bottom Edge on Board (Spacing Line): 8mm; Y-Width of Bottom Edge on Board: 8.5mm; Symbol: WAFER-PH2.0-2PWB; Device: WAFER-PH2.0-2PWB; LCSC Part Name: 1x2P 间距:2mm 卧贴 系列:PH; Supplier Part: C3029440; Manufacturer Part: WAFER-PH2.0-2PWB; Supplier Footprint: SMD,P=2mm,卧贴; JLCPCB Part Class: 扩展库; Datasheet: https://atta.szlcsc.com/upload/public/pdf/source/20220527/83903C18429EFE4C9EEE8C529A248431.pdf; Supplier: LCSC; Convert to PCB: yes; Mounting Type: 卧贴; Number of Pins: 2P; Number of Rows: 1; Row Spacing: -; Contact Material: 黄铜; Contact Plating: -; Operating Temperature: -25℃~+85℃; Flame Retardant Rating: -; Color: 米色
footprint CONN-SMD_2P-P2.00_XUNPU_WAFER-PH2.0-2PWB
3D model CONN-SMD_2P-P2.00_XUNPU_WAFER-PH2.0-2PWB
pins: 1, 2, 3, 4

## WAFER-PH2.0-4PWB
designator U?
Manufacturer: XUNPU(讯普); Add into BOM: yes; Pins Structure: 1x4P; Pitch: 2mm; Reference Series: PH; Number of PINs Per Row: 4; Current Rating: 2A; Voltage Rating: 250V; Plastic Material: LCP; Supplementary Features: 辅助焊脚; Z-Height of the Board: 5.6mm; X-Length of Bottom Edge on Board (Spacing Line): 12mm; Y-Width of Bottom Edge on Board: 8.5mm; Symbol: WAFER-PH2.0-4PWB; Device: WAFER-PH2.0-4PWB; LCSC Part Name: 1x4P 间距:2mm 卧贴 系列:PH; Supplier Part: C3029442; Manufacturer Part: WAFER-PH2.0-4PWB; Supplier Footprint: SMD,P=2mm,卧贴; JLCPCB Part Class: 扩展库; Datasheet: https://atta.szlcsc.com/upload/public/pdf/source/20220527/83903C18429EFE4C9EEE8C529A248431.pdf; Supplier: LCSC; Convert to PCB: yes; Mounting Type: 卧贴; Number of Pins: 4P; Number of Rows: 1; Row Spacing: -; Contact Material: 黄铜; Contact Plating: -; Operating Temperature: -25℃~+85℃; Flame Retardant Rating: -; Color: 米色
footprint CONN-SMD_4P-P2.00_XUNPU_WAFER-PH2.0-4PWB
3D model CONN-SMD_4P-P2.00_XUNPU_WAFER-PH2.0-4PWB
pins: 1, 2, 3, 4, 5, 6

## XH2.5-4P
designator XH?  (value not drawn)
footprint PH2.0-4P 弯针
pins: 1, 2, 3, 4

## XL4015E1
designator U?
DC-DC电源芯片；降压型；可调；工作电压 8V~36V；输出电压 1.25V~32V；输出电流 5A；静态电流(Iq) 5mA;开关频率 180kHz; Manufacturer: XLSEMI(芯龙); Add into BOM: yes; Function: 降压型; Output Type: 可调; Voltage - Supply: 8V~36V; Output Current: 5A; Synchronous Rectifier: 是; Number of Outputs: 1; Topology: 降压式; Switch tube (built-in/external): 内置; Symbol: XL4015E1; Device: XL4015E1; LCSC Part Name: 5A 180KHz 36V 降压型DC-DC转换器; Supplier Part: C51661; Manufacturer Part: XL4015E1; Supplier Footprint: TO-263-5; JLCPCB Part Class: 扩展库; Datasheet: https://atta.szlcsc.com/upload/public/pdf/source/20250109/4BED35EECA130A9C007A6498C0DD05D8.pdf; Supplier: LCSC; Convert to PCB: yes; Output Voltage: 1.25V~32V; Frequency - Switching: 180kHz; Operating Temperature: -40℃~+125℃; Quiescent Current: 5mA
footprint TO-263-5_L10.2-W8.9-P1.70-TL
3D model TO-263-5-5P_L10.2-W8.7-H4.5-LS14.4-P1.70
pins: 1 GND, 2 FB, 3 SW, 4 VC, 5 VIN, 6 SW

## XR050125TS470MVL8
designator U??, comment 47uH  (value not drawn)
Manufacturer: XR(祥如); Symbol: XR050125TS470MVL8; Add into BOM: yes; Tolerance: ±10%; Current Rating: 5A; Wire Diameter: 0.8mm; Device: XR050125TS470MVL8; LCSC Part Name: 带热缩套管; Supplier Part: C18213949; Manufacturer Part: XR050125TS470MVL8; Supplier Footprint: 插件,D=15.5mm; JLCPCB Part Class: Extended Part; Datasheet: https://atta.szlcsc.com/upload/public/pdf/source/20231010/EDCEF0594C4C27CEB2CA80CF1B16AD9C.pdf; Supplier: LCSC; Convert to PCB: yes; Value: 47uH; Type: 环形电感
footprint IND-TH_L15.5-W7.5-P8.00-D0.8
3D model IND-TH_L15.5-W7.5-P8.00-D0.8
pins: 1, 2